# Altium schematic symbol library LibZynqEvalBoard.SchLib: 81 symbols (part 1 of 2)
Pins are listed as number, name and electrical type; pins without a type are passive.

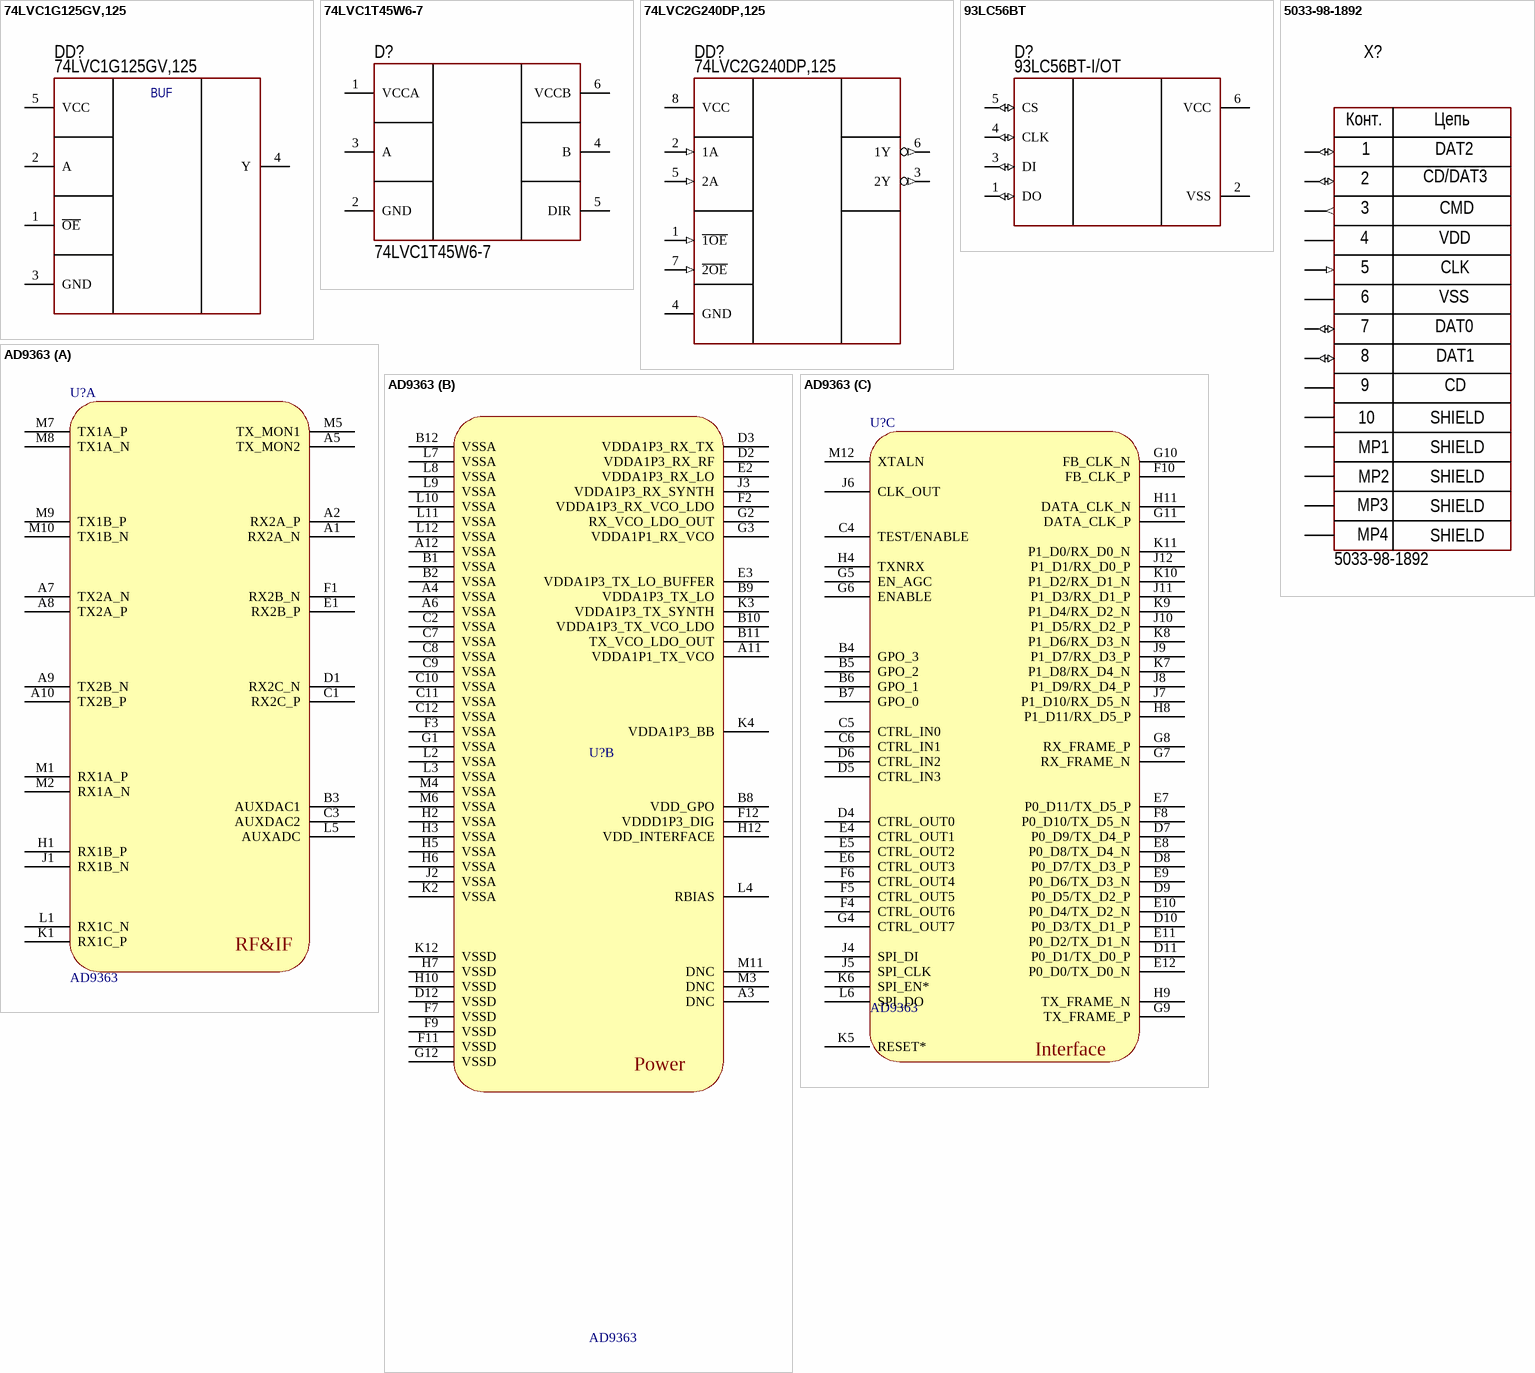
[diagram p0: symbols 74LVC1G125GV,125 to AD9363]

## 74LVC1G125GV,125
designator DD?  PartNumber: 74LVC1G125GV,125
SOT-23-5 Buffer/Driver/Transceiver ROHS; Manufacturer: Nexperia; VoltageInput: 1.65V to 5.5V; HelpURL: https://datasheet.lcsc.com/lcsc/2304140030_Nexperia-74LVC1G125GV-125_C12518.pdf; Package: 5-TSOP; ComponentType: Voltage-Level Shifter; ValueManufacturerPartNumber: =ComponentType+', '+VoltageInput+', '+MaxDropout+', '+VoltageOutput+', '+CurrentOutput+', '+Temperature+', '+Package; Temperature: -40...+85°C
footprint IC: 5-TSOP
pins: 1 ~{OE}, 2 A, 3 GND, 4 Y, 5 VCC
text: BUF

## 74LVC1T45W6-7
designator D?  PartNumber: 74LVC1T45W6-7
1.65V~5.5V 1 1 1.65V~5.5V SOT-26 Translators / Level Shifters ROHS; Manufacturer: Diodes Incorporated; ValueManufacturerPartNumber: ICtrigger D-type, 0.8...5.5V, -40...+85°C, SOT-26; Supply: 0.8...5.5V; HelpURL: https://www.lcsc.com/product-detail/Translators-Level-Shifters_Diodes-Incorporated-74LVC1T45W6-7_C168856.html; Package: SOT-26; ComponentType: ICtrigger D-type; Temperature: -40...+85°C
footprint SOT23-6 (pitch 0.95 mm)
pins: 1 VCCA, 2 GND, 3 A, 4 B, 5 DIR, 6 VCCB

## 74LVC2G240DP,125
designator DD?  PartNumber: 74LVC2G240DP,125
Полупроводниковые приборы\Интегральные схемы - ИС\Логические ИС\Буферы и линейные аппаратные драйверы Буферы и линейные аппаратные драйверы 3.3V 2 BUF/LDRVR; Manufacturer: Nexperia; VoltageInput: 1.65V-5.5V; HelpURL: https://datasheet.lcsc.com/lcsc/2204271615_Nexperia-74LVC2G240DP-125_C730238.pdf; Package: TSSOP-8-3.0mm; ComponentType: Voltage-Level Shifter; ValueManufacturerPartNumber: =ComponentType+', '+VoltageInput+', '+MaxDropout+', '+VoltageOutput+', '+CurrentOutput+', '+Temperature+', '+Package; Temperature: -40...+125°C
footprint IC:TSSOP-8-3.0mm
pins: 1 ~{1OE} (in), 2 1A (in), 3 2Y (out), 4 GND, 5 2A (in), 6 1Y (out), 7 ~{2OE} (in), 8 VCC

## 93LC56BT
designator D?  PartNumber: 93LC56BT-I/OT
EEPROM; Manufacturer: Microchip Technology; ValueManufacturerPartNumber: IC memory, EEPROM, 2KB (256x8), 2 MHz, SPI, 2.5...5.5V, -40...+85°C, SOT-23-6; Supply: 2.5...5.5V; Speed: 2 MHz; InterfaceData: SPI; MemorySize: 2KB (256x8); HelpURL: https://www.digikey.com/product-detail/en/microchip-technology/93LC56BT-I-OT/93LC56BT-I-OTCT-ND/857632; Package: SOT-23-6; ComponentType: IC memory; Temperature: -40...+85°C; MemoryType: EEPROM
footprint SOT23-6 (pitch 0.95 mm)
pins: 1 DO (io), 2 VSS (power), 3 DI (io), 4 CLK (io), 5 CS (io), 6 VCC (power)

## 5033-98-1892
designator X?  CommentText: 5033-98-1892
Manufacturer: MOLEX; ValueManufacturerPartNumber: MicroSD; HelpURL: https://static.chipdip.ru/lib/910/DOC012910372.pdf; TypeConnector: MicroSD; PartNumber: 5033-98-1892
footprint CON: 5033981892
pins: 1 DAT2 (io), 2 CD/DAT3 (io), 3 CMD (out), 4 VDD (power), 5 CLK (in), 6 VSS (power), 7 DAT0 (io), 8 DAT1 (io), 9 CD (power), 10 SHIELD (power), MP1 SHIELD (power), MP2 SHIELD (power), MP3 SHIELD (power), MP4 SHIELD (power)
text: Конт.; Цепь

## AD9363
designator U?
footprint AD936X
part A pins: A1 RX2A_N, A2 RX2A_P, A5 TX_MON2, A7 TX2A_N, A8 TX2A_P, A9 TX2B_N, A10 TX2B_P, B3 AUXDAC1, C1 RX2C_P, C3 AUXDAC2, D1 RX2C_N, E1 RX2B_P, F1 RX2B_N, H1 RX1B_P, J1 RX1B_N, K1 RX1C_P, L1 RX1C_N, L5 AUXADC, M1 RX1A_P, M2 RX1A_N, M5 TX_MON1, M7 TX1A_P, M8 TX1A_N, M9 TX1B_P, M10 TX1B_N
part B pins: A3 DNC, A4 VSSA, A6 VSSA, A11 VDDA1P1_TX_VCO, A12 VSSA, B1 VSSA, B2 VSSA, B8 VDD_GPO, B9 VDDA1P3_TX_LO, B10 VDDA1P3_TX_VCO_LDO, B11 TX_VCO_LDO_OUT, B12 VSSA, C2 VSSA, C7 VSSA, C8 VSSA, C9 VSSA, C10 VSSA, C11 VSSA, C12 VSSA, D2 VDDA1P3_RX_RF, D3 VDDA1P3_RX_TX, D12 VSSD, E2 VDDA1P3_RX_LO, E3 VDDA1P3_TX_LO_BUFFER, F2 VDDA1P3_RX_VCO_LDO, F3 VSSA, F7 VSSD, F9 VSSD, F11 VSSD, F12 VDDD1P3_DIG, G1 VSSA, G2 RX_VCO_LDO_OUT, G3 VDDA1P1_RX_VCO, G12 VSSD, H2 VSSA, H3 VSSA, H5 VSSA, H6 VSSA, H7 VSSD, H10 VSSD, H12 VDD_INTERFACE, J2 VSSA, J3 VDDA1P3_RX_SYNTH, K2 VSSA, K3 VDDA1P3_TX_SYNTH, K4 VDDA1P3_BB, K12 VSSD, L2 VSSA, L3 VSSA, L4 RBIAS, L7 VSSA, L8 VSSA, L9 VSSA, L10 VSSA, L11 VSSA, L12 VSSA, M3 DNC, M4 VSSA, M6 VSSA, M11 DNC
part C pins: B4 GPO_3, B5 GPO_2, B6 GPO_1, B7 GPO_0, C4 TEST/ENABLE, C5 CTRL_IN0, C6 CTRL_IN1, D4 CTRL_OUT0, D5 CTRL_IN3, D6 CTRL_IN2, D7 P0_D9/TX_D4_P, D8 P0_D7/TX_D3_P, D9 P0_D5/TX_D2_P, D10 P0_D3/TX_D1_P, D11 P0_D1/TX_D0_P, E4 CTRL_OUT1, E5 CTRL_OUT2, E6 CTRL_OUT3, E7 P0_D11/TX_D5_P, E8 P0_D8/TX_D4_N, E9 P0_D6/TX_D3_N, E10 P0_D4/TX_D2_N, E11 P0_D2/TX_D1_N, E12 P0_D0/TX_D0_N, F4 CTRL_OUT6, F5 CTRL_OUT5, F6 CTRL_OUT4, F8 P0_D10/TX_D5_N, F10 FB_CLK_P, G4 CTRL_OUT7, G5 EN_AGC, G6 ENABLE, G7 RX_FRAME_N, G8 RX_FRAME_P, G9 TX_FRAME_P, G10 FB_CLK_N, G11 DATA_CLK_P, H4 TXNRX, H8 P1_D11/RX_D5_P, H9 TX_FRAME_N, H11 DATA_CLK_N, J4 SPI_DI, J5 SPI_CLK, J6 CLK_OUT, J7 P1_D10/RX_D5_N, J8 P1_D9/RX_D4_P, J9 P1_D7/RX_D3_P, J10 P1_D5/RX_D2_P, J11 P1_D3/RX_D1_P, J12 P1_D1/RX_D0_P, K5 RESET*, K6 SPI_EN*, K7 P1_D8/RX_D4_N, K8 P1_D6/RX_D3_N, K9 P1_D4/RX_D2_N, K10 P1_D2/RX_D1_N, K11 P1_D0/RX_D0_N, L6 SPI_DO, M12 XTALN
part A text: RF&IF
part B text: Power
part C text: Interface

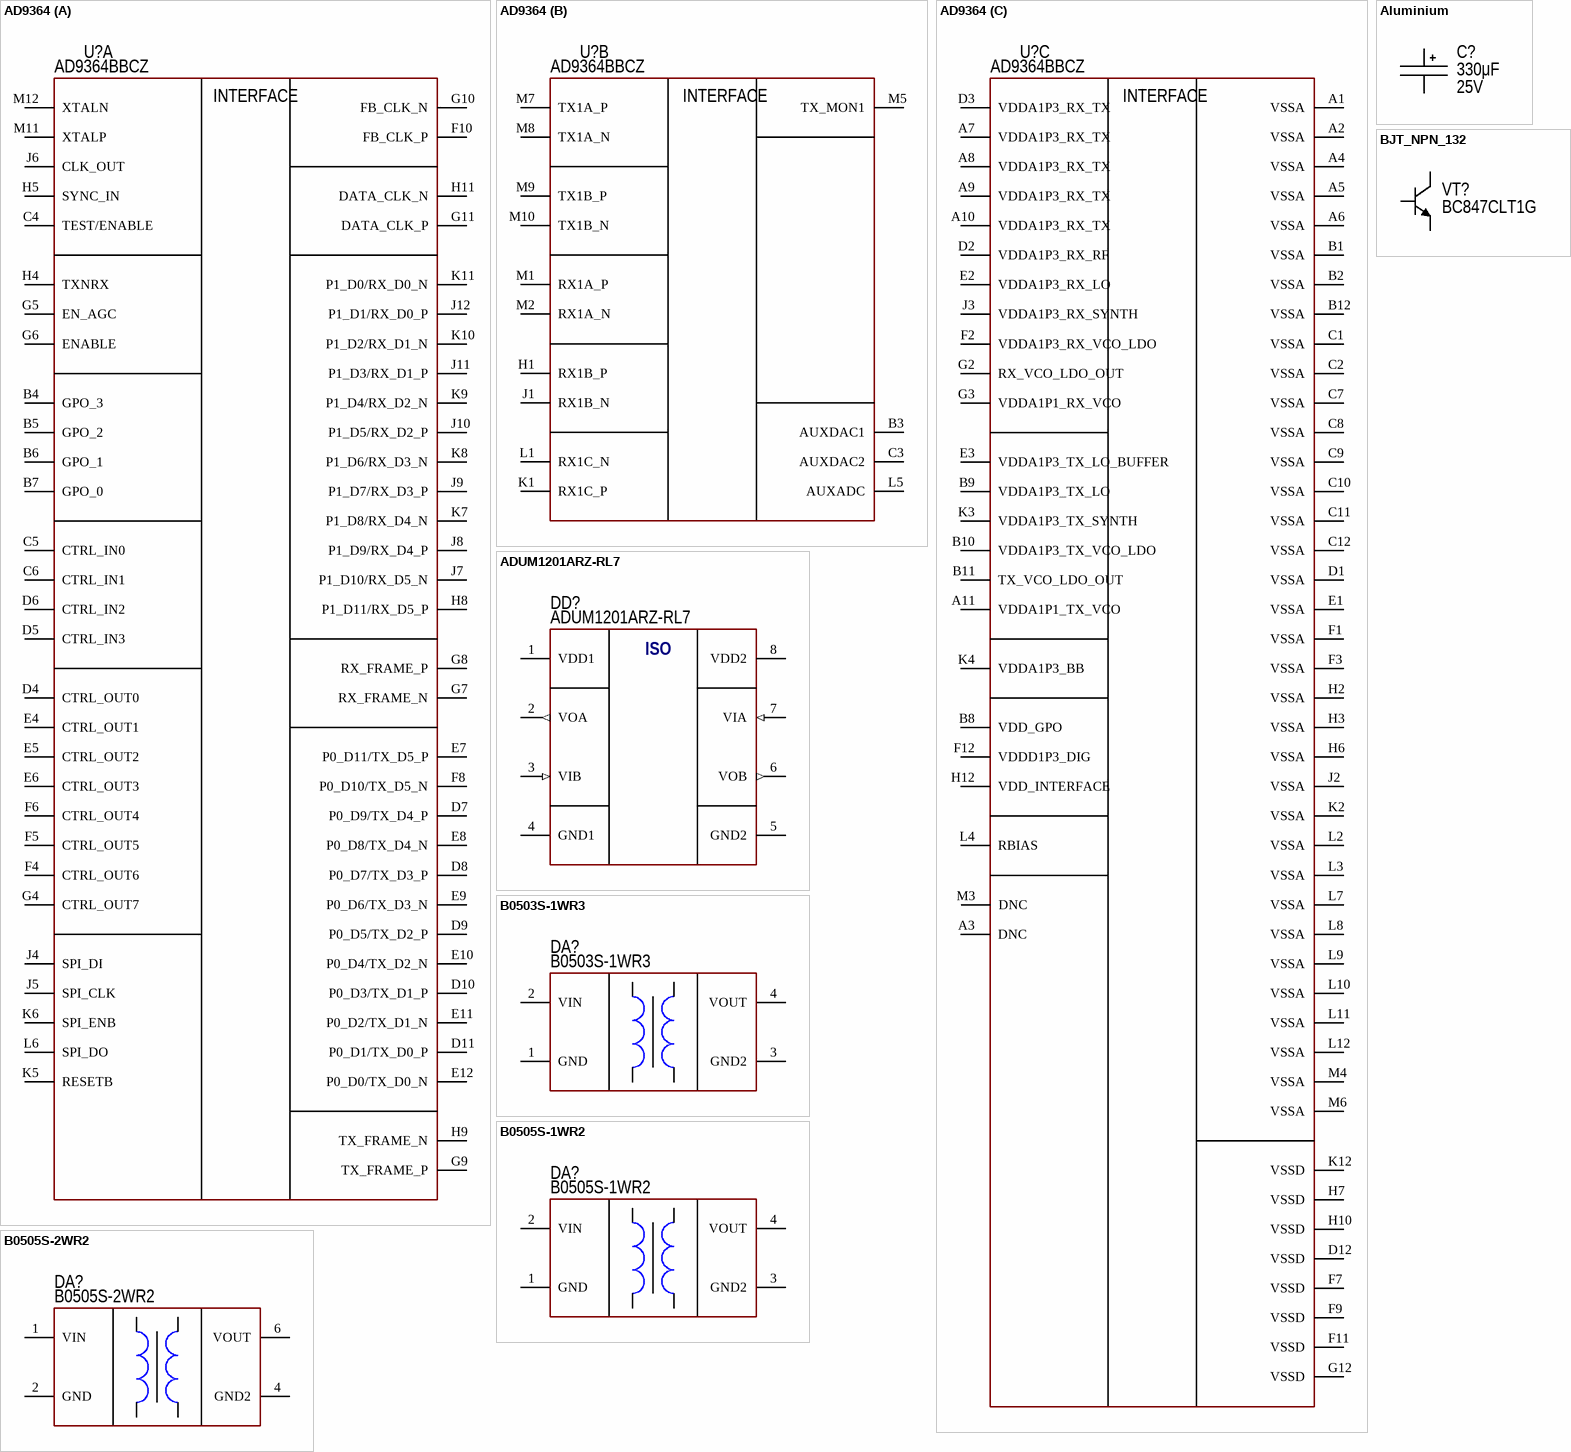
[diagram p1: symbols AD9364 to BJT_NPN_132]

## AD9364
designator U?  PartNumber: AD9364BBCZ
70MHz~6GHz Cellular SPI BGA-144 RF Transceiver ICs ROHS; Manufacturer: Analog Devices; VoltageInput: 1.2V to 2.5V; HelpURL: https://www.lcsc.com/product-detail/RF-Transceiver-ICs_Analog-Devices-AD9364BBCZ_C444946.html; Package: BGA-144; ComponentType: RF Transceiver; ValueManufacturerPartNumber: =ComponentType+', '+VoltageInput+', '+MaxDropout+', '+VoltageOutput+', '+CurrentOutput+', '+Temperature+', '+Package; Temperature: -40...+105°C
footprint IC: BGA-144 (AD936X)
part A pins: B4 GPO_3, B5 GPO_2, B6 GPO_1, B7 GPO_0, C4 TEST/ENABLE, C5 CTRL_IN0, C6 CTRL_IN1, D4 CTRL_OUT0, D5 CTRL_IN3, D6 CTRL_IN2, D7 P0_D9/TX_D4_P, D8 P0_D7/TX_D3_P, D9 P0_D5/TX_D2_P, D10 P0_D3/TX_D1_P, D11 P0_D1/TX_D0_P, E4 CTRL_OUT1, E5 CTRL_OUT2, E6 CTRL_OUT3, E7 P0_D11/TX_D5_P, E8 P0_D8/TX_D4_N, E9 P0_D6/TX_D3_N, E10 P0_D4/TX_D2_N, E11 P0_D2/TX_D1_N, E12 P0_D0/TX_D0_N, F4 CTRL_OUT6, F5 CTRL_OUT5, F6 CTRL_OUT4, F8 P0_D10/TX_D5_N, F10 FB_CLK_P, G4 CTRL_OUT7, G5 EN_AGC, G6 ENABLE, G7 RX_FRAME_N, G8 RX_FRAME_P, G9 TX_FRAME_P, G10 FB_CLK_N, G11 DATA_CLK_P, H4 TXNRX, H5 SYNC_IN, H8 P1_D11/RX_D5_P, H9 TX_FRAME_N, H11 DATA_CLK_N, J4 SPI_DI, J5 SPI_CLK, J6 CLK_OUT, J7 P1_D10/RX_D5_N, J8 P1_D9/RX_D4_P, J9 P1_D7/RX_D3_P, J10 P1_D5/RX_D2_P, J11 P1_D3/RX_D1_P, J12 P1_D1/RX_D0_P, K5 RESETB, K6 SPI_ENB, K7 P1_D8/RX_D4_N, K8 P1_D6/RX_D3_N, K9 P1_D4/RX_D2_N, K10 P1_D2/RX_D1_N, K11 P1_D0/RX_D0_N, L6 SPI_DO, M11 XTALP, M12 XTALN
part B pins: B3 AUXDAC1, C3 AUXDAC2, H1 RX1B_P, J1 RX1B_N, K1 RX1C_P, L1 RX1C_N, L5 AUXADC, M1 RX1A_P, M2 RX1A_N, M5 TX_MON1, M7 TX1A_P, M8 TX1A_N, M9 TX1B_P, M10 TX1B_N
part C pins: A1 VSSA, A2 VSSA, A3 DNC, A4 VSSA, A5 VSSA, A6 VSSA, A7 VDDA1P3_RX_TX, A8 VDDA1P3_RX_TX, A9 VDDA1P3_RX_TX, A10 VDDA1P3_RX_TX, A11 VDDA1P1_TX_VCO, B1 VSSA, B2 VSSA, B8 VDD_GPO, B9 VDDA1P3_TX_LO, B10 VDDA1P3_TX_VCO_LDO, B11 TX_VCO_LDO_OUT, B12 VSSA, C1 VSSA, C2 VSSA, C7 VSSA, C8 VSSA, C9 VSSA, C10 VSSA, C11 VSSA, C12 VSSA, D1 VSSA, D2 VDDA1P3_RX_RF, D3 VDDA1P3_RX_TX, D12 VSSD, E1 VSSA, E2 VDDA1P3_RX_LO, E3 VDDA1P3_TX_LO_BUFFER, F1 VSSA, F2 VDDA1P3_RX_VCO_LDO, F3 VSSA, F7 VSSD, F9 VSSD, F11 VSSD, F12 VDDD1P3_DIG, G2 RX_VCO_LDO_OUT, G3 VDDA1P1_RX_VCO, G12 VSSD, H2 VSSA, H3 VSSA, H6 VSSA, H7 VSSD, H10 VSSD, H12 VDD_INTERFACE, J2 VSSA, J3 VDDA1P3_RX_SYNTH, K2 VSSA, K3 VDDA1P3_TX_SYNTH, K4 VDDA1P3_BB, K12 VSSD, L2 VSSA, L3 VSSA, L4 RBIAS, L7 VSSA, L8 VSSA, L9 VSSA, L10 VSSA, L11 VSSA, L12 VSSA, M3 DNC, M4 VSSA, M6 VSSA
part A text: INTERFACE
part B text: INTERFACE
part C text: INTERFACE

## ADUM1201ARZ-RL7
designator DD?  PartNumber: ADUM1201ARZ-RL7
Двухканальный цифровой изолятор / SO-8; Manufacturer: Analog Devices; VoltageInput: 2.7V to 5.5V; HelpURL: https://www.chipdip.ru/product/adum1201ar; Package: soic-8; ComponentType: Voltage-Level Shifter; ValueManufacturerPartNumber: =ComponentType+', '+VoltageInput+', '+MaxDropout+', '+VoltageOutput+', '+CurrentOutput+', '+Temperature+', '+Package; Temperature: -40...+105°C
footprint IC: SOIC-8
pins: 1 VDD1, 2 VOA (out), 3 VIB (in), 4 GND1, 5 GND2, 6 VOB (out), 7 VIA (in), 8 VDD2
text: ISO

## Aluminium
designator C?  value 330μF  Voltage: 25V
Manufacturer: Wurth; PartNumber: 860080475013; ValueManufacturerPartNumber: Aluminium capacitor, 330μF, 25V, ±20%, 54mOhm, 14x10x5 mm, -55...+105°C; TypeCapacitor: Aluminium capacitor; Tolerance: ±20%; Impedance: 54mOhm; Package: 14x10x5 mm; HelpURL: https://www.digikey.com/product-detail/en/wurth-electronics-inc/860080475013/732-9029-1-ND/5728972; Temperature: -55...+105°C
footprint CAP: D5C2H11
footprint CAP: D6.3C2.5H11
footprint CAP: D6.3C2.5H16
footprint CAP: D8C3.5H12
footprint CAP: D10C5H12.5
footprint CAP: D10C5H20
footprint CAP: D10C5H16
footprint CAP: D13C5H20
footprint CAP: D16C7.5H25
footprint CAP: D16C7.5H31.5
footprint CAP: D18C7.5H25
footprint CAP: D18C7.5H40
footprint CAP: D22C10H25
footprint CAP: D25C10H50
footprint CAP: D30C10H37
footprint CAP: D30C10.5H47
footprint CAP: D35C10H40
footprint CAP: D35C10.5H50
footprint CAP: SMD D6.3A6.6H7.7
footprint CAP: D18C7.5H32
footprint CAP: D18C7.5H32 (H)
footprint CAP: SMD D4H5.4
pins: 1, 2

## B0503S-1WR3
designator DA?  PartNumber: B0503S-1WR3
DC/DC converter; Manufacturer: Mornsun; ValueManufacturerPartNumber: DC/DC converter, isolator, 3V3 300mA, -40...+105°C, SIP-4; OutputType: isolator; OutputVoltage: 3V3 300mA; HelpURL: https://www.chipdip.ru/product/b0503s-1wr3; Package: SIP-4; ComponentType: DC/DC converter; Temperature: -40...+105°C
footprint MOD: SIP-4 (B0503S-1WR3
pins: 1 GND (power), 2 VIN (power), 3 GND2 (power), 4 VOUT (power)

## B0505S-1WR2
designator DA?  PartNumber: B0505S-1WR2
DC/DC converter; Manufacturer: Mornsun; ValueManufacturerPartNumber: DC/DC converter, isolator, 5V0/300mA, -40...+105°C, SIP-4; OutputType: isolator; OutputVoltage: 5V0/300mA; HelpURL: https://static.chipdip.ru/lib/831/DOC031831774.pdf; Package: SIP-4; ComponentType: DC/DC converter; Temperature: -40...+105°C
footprint MOD: SIP-4 (B0503S-1WR3
pins: 1 GND (power), 2 VIN (power), 3 GND2 (power), 4 VOUT (power)

## B0505S-2WR2
designator DA?  PartNumber: B0505S-2WR2
DC/DC converter; Manufacturer: Mornsun; ValueManufacturerPartNumber: DC/DC converter, isolator, 5V0/400mA, -40...+105°C, SIP7-6; OutputType: isolator; OutputVoltage: 5V0/400mA; HelpURL: https://static.chipdip.ru/lib/137/DOC004137420.pdf; Package: SIP7-6; ComponentType: DC/DC converter; Temperature: -40...+105°C
footprint MOD: SIP-7 (B0505S-2WR2)
pins: 1 VIN (power), 2 GND (power), 4 GND2 (power), 6 VOUT (power)

## BJT_NPN_132
designator VT?  PartNumber: BC847CLT1G
Manufacturer: ON Semiconductor; ValueManufacturerPartNumber: NPN transistor, 45V, 100mA, 100MHz, 300mW, 0.6V, 420, SOT-23, -55...+125°C; TypeTransistor: NPN transistor; VoltageCE: 45V; CurrentCE: 100mA; VoltageSaturation: 0.6V; Frequency: 100MHz; CurrentGain: 420; MaxPower: 300mW; Package: SOT-23; HelpURL: https://www.digikey.com/product-detail/en/on-semiconductor/BC847CLT1G/BC847CLT1GOSCT-ND/917836; Temperature: -55...+125°C
footprint SOT23
pins: 1 B, 2 E, 3 C

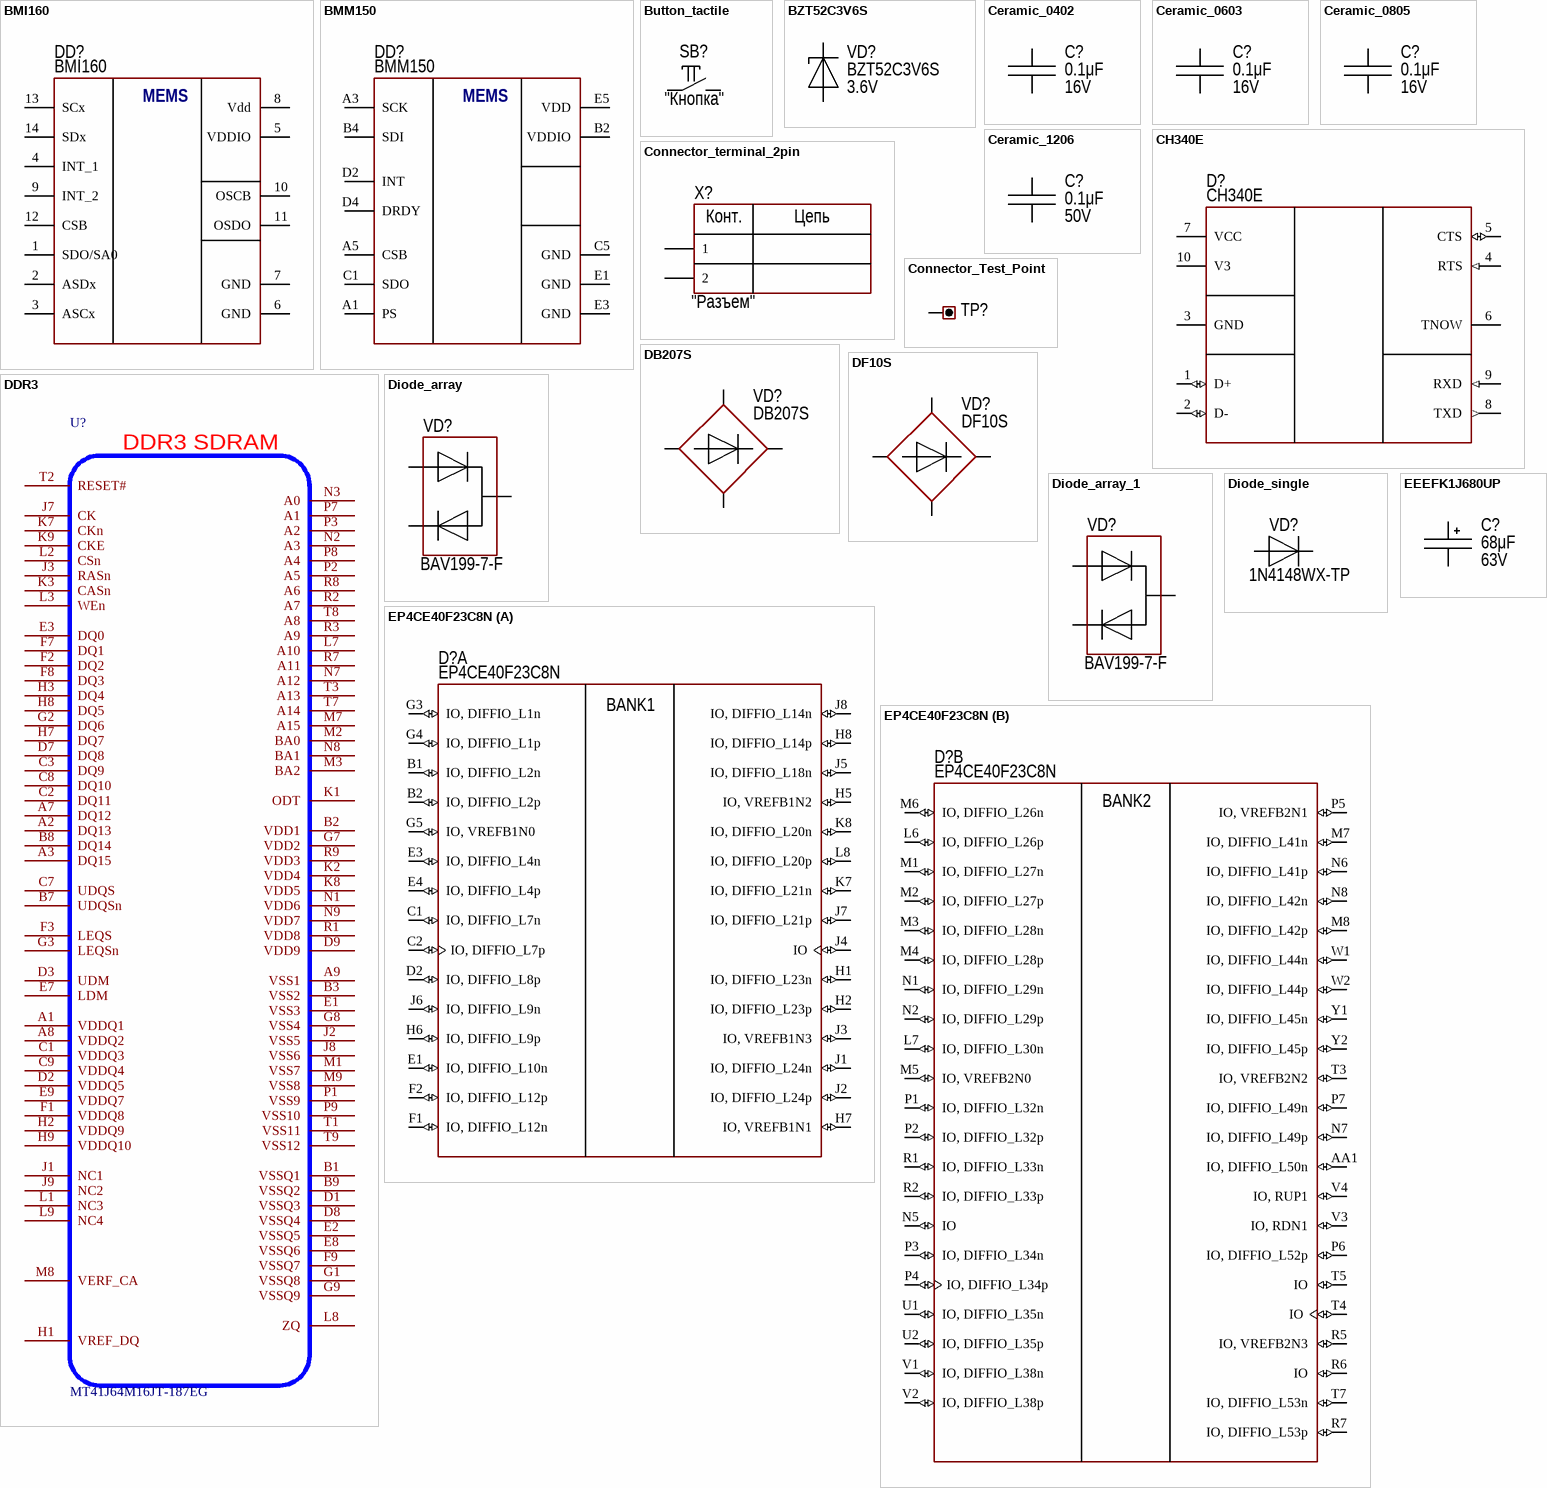
[diagram p2: symbols BMI160 to EP4CE40F23C8N]

## BMI160
designator DD?  PartNumber: BMI160
MEMS Акселерометр и гироскоп; Manufacturer: BOSH; VoltageInput: 1.71V to 3.6V; HelpURL: https://www.bosch-sensortec.com/products/motion-sensors/imus/bmi160/; Package: LGA-14; ComponentType: MEMS; ValueManufacturerPartNumber: =ComponentType+', '+VoltageInput+', '+MaxDropout+', '+VoltageOutput+', '+CurrentOutput+', '+Temperature+', '+Package; Temperature: -40...+85°C
footprint IC: LGA-14L
pins: 1 SDO/SA0, 2 ASDx, 3 ASCx, 4 INT_1, 5 VDDIO, 6 GND, 7 GND, 8 Vdd, 9 INT_2, 10 OSCB, 11 OSDO, 12 CSB, 13 SCx, 14 SDx

## BMM150
designator DD?  PartNumber: BMM150
MEMS Магнетометр; Manufacturer: BOSH; VoltageInput: 1.62V to 3.6V; HelpURL: https://www.bosch-sensortec.com/products/motion-sensors/magnetometers-bmm150/; Package: WLCSP-12; ComponentType: MEMS; ValueManufacturerPartNumber: =ComponentType+', '+VoltageInput+', '+MaxDropout+', '+VoltageOutput+', '+CurrentOutput+', '+Temperature+', '+Package; Temperature: -40...+85°C
footprint IC:WLCSP-12 (BMM150)
pins: A1 PS, A3 SCK, A5 CSB, B2 VDDIO, B4 SDI, C1 SDO, C5 GND, D2 INT, D4 DRDY, E1 GND, E3 GND, E5 VDD

## Button_tactile
designator SB?  CommentText: "Кнопка"
Manufacturer: TE Connectivity; ValueManufacturerPartNumber: Tactile button, 6x6mm; PartNumber: FSM2JSMAATR; TypeButton: Tactile button; HelpURL: https://www.digikey.com/product-detail/en/te-connectivity-alcoswitch-switches/FSM2JSMAATR/450-1792-1-ND/3503931; Package: 6x6mm
footprint BUT: 6x3.5 SMD
pins: 1, 2

## BZT52C3V6S
designator VD?  Voltage: 3.6V  PartNumber: BZT52C3V6S
SOD-323 Zener Diodes ROHS; Manufacturer: Diodes Incorporated; ValueManufacturerPartNumber: Zener diode, 3.6V, 5mA, 0.9V, 17Ohm, SOD-323, -55...+150°C; Current: 5mA; VoltageDrop: 0.9V; RecoveryTime: 17Ohm; Package: SOD-323; HelpURL: https://www.lcsc.com/product-detail/Zener-Diodes_YFW-BZT52C3V6S_C5270767.html; Temperature: -55...+150°C; TypeDiode: Zener diode
footprint DIODE: SOD323
pins: 1 A, 2 C

## Ceramic_0402
designator C?  value 0.1μF  Voltage: 16V
Manufacturer: Yageo; PartNumber: CC0402KRX7R7BB104; ValueManufacturerPartNumber: Ceramic capacitor, 0.1μF, X7R, ±10%, 16V, 0402, -55...+125°C; TypeCapacitor: Ceramic capacitor; Tolerance: ±10%; TypeDielectric: X7R; Package: 0402; HelpURL: https://www.digikey.com/product-detail/en/yageo/CC0402KRX7R7BB104/311-1338-1-ND/2103122; Temperature: -55...+125°C
footprint CAP: 0402
pins: 1, 2

## Ceramic_0603
designator C?  value 0.1μF  Voltage: 16V
Manufacturer: Yageo; PartNumber: CC0603KRX7R7BB104; ValueManufacturerPartNumber: Ceramic capacitor, 0.1μF, X7R, ±10%, 16V, 0603, -55...+125°C; TypeCapacitor: Ceramic capacitor; Tolerance: ±10%; TypeDielectric: X7R; Package: 0603; HelpURL: https://www.digikey.com/product-detail/en/yageo/CC0603KRX7R7BB104/311-1088-1-ND/302998; Temperature: -55...+125°C
footprint CAP: 0603
pins: 1, 2

## Ceramic_0805
designator C?  value 0.1μF  Voltage: 16V
Manufacturer: Yageo; PartNumber: CC0805KRX7R7BB104; ValueManufacturerPartNumber: Ceramic capacitor, 0.1μF, X7R, ±10%, 16V, 0805, -55...+125°C; TypeCapacitor: Ceramic capacitor; Tolerance: ±10%; TypeDielectric: X7R; Package: 0805; HelpURL: https://www.digikey.com/product-detail/en/yageo/CC0805KRX7R7BB104/311-1142-1-ND/303052; Temperature: -55...+125°C
footprint CAP: 0805
pins: 1, 2

## Ceramic_1206
designator C?  value 0.1μF  Voltage: 50V
Manufacturer: Yageo; PartNumber: CC1206KRX7R9BB104; ValueManufacturerPartNumber: Ceramic capacitor, 0.1μF, X7R, ±10%, 50V, 1206, -55...+125°C; TypeCapacitor: Ceramic capacitor; Tolerance: ±10%; TypeDielectric: X7R; Package: 1206; HelpURL: https://www.digikey.com/product-detail/en/yageo/CC1206KRX7R9BB104/311-1179-1-ND/303089; Temperature: -55...+125°C
footprint CAP: 1206
pins: 1, 2

## CH340E
designator D?  PartNumber: CH340E
USB-to-UART; Manufacturer: WCH(Jiangsu Qin Heng); ValueManufacturerPartNumber: IC usb-to-uart bridge, USB2.0, 3...3.6V, -40...+85°C, MSOP-10; Supply: 3...3.6V; HelpURL: https://www.lcsc.com/product-detail/USB-ICs_WCH-Jiangsu-Qin-Heng-CH340E_C99652.html; Package: MSOP-10; ComponentType: IC usb-to-uart bridge; Temperature: -40...+85°C; Standard: USB2.0
footprint 10-MSOP (3x3 mm, pitch 0.5 mm)
pins: 1 D+ (io), 2 D- (io), 3 GND, 4 RTS (in), 5 CTS (io), 6 TNOW, 7 VCC (power), 8 TXD (out), 9 RXD (in), 10 V3 (power)

## Connector_terminal_2pin
designator X?  CommentText: "Разъем"
Manufacturer: Degson; ValueManufacturerPartNumber: Terminal connector, 2pin, 3.5mm, 300VAC, 10A; PartNumber: DG350-3.5-02P-14; TypeConnector: Terminal connector; VoltageMax: 300VAC; Pitch: 3.5mm; CurrentMax: 10A; Multichannel: 2pin; HelpURL: https://www.chipdip.ru/product/dg350-3.5-02p-12
footprint CON: 691322310002 (15EDGRC-3.81-02)
footprint CON: 15EDGVC-3.5-02 (or 691321100002) (Vertical PCB Header, pitch 3.5mm, 02p)
pins: 1, 2
text: Конт.; Цепь

## Connector_Test_Point
designator TP?
Manufacturer: Keystone; ValueManufacturerPartNumber: Test point, Keystone, 5001; PartNumber: 5001; TypeConnector: Test point; HelpURL: https://www.digikey.com/product-detail/en/keystone-electronics/5001/36-5001-ND/255327; Value: *
footprint CON: 5000 (Keystone)
footprint CON: 5001 (Keystone)
footprint CON: 5002 (Keystone)
footprint CON: 5004 (Keystone)
footprint CON: 5116 (Keystone)
footprint CON: TEST POINT 1.5mm
footprint Value (Footprint not found)
pins: 1

## DB207S
designator VD?  PartNumber: DB207S
Manufacturer: Hottech; ValueManufacturerPartNumber: Single phase rectifier, 1000V, 2A, 1.1V, 4-SMD, -55...+150°C; TypeDiode: Single phase rectifier; Voltage: 1000V; Current: 2A; VoltageDrop: 1.1V; Package: 4-SMD; HelpURL: https://www.digikey.com/product-detail/en/comchip-technology/DF206ST-G/641-1425-1-ND/2208797; Temperature: -55...+150°C
footprint DIODE: DF206S-G
pins: 1, 2, 3, 4

## DDR3
designator U?, comment MT41J64M16JT-187EG
footprint FBGA96
pins: A1 VDDQ1, A2 DQ13, A3 DQ15, A7 DQ12, A8 VDDQ2, A9 VSS1, B1 VSSQ1, B2 VDD1, B3 VSS2, B7 UDQSn, B8 DQ14, B9 VSSQ2, C1 VDDQ3, C2 DQ11, C3 DQ9, C7 UDQS, C8 DQ10, C9 VDDQ4, D1 VSSQ3, D2 VDDQ5, D3 UDM, D7 DQ8, D8 VSSQ4, D9 VDD9, E1 VSS3, E2 VSSQ5, E3 DQ0, E7 LDM, E8 VSSQ6, E9 VDDQ7, F1 VDDQ8, F2 DQ2, F3 LEQS, F7 DQ1, F8 DQ3, F9 VSSQ7, G1 VSSQ8, G2 DQ6, G3 LEQSn, G7 VDD2, G8 VSS4, G9 VSSQ9, H1 VREF_DQ, H2 VDDQ9, H3 DQ4, H7 DQ7, H8 DQ5, H9 VDDQ10, J1 NC1, J2 VSS5, J3 RASn, J7 CK, J8 VSS6, J9 NC2, K1 ODT, K2 VDD4, K3 CASn, K7 CKn, K8 VDD5, K9 CKE, L1 NC3, L2 CSn, L3 WEn, L7 A10, L8 ZQ, L9 NC4, M1 VSS7, M2 BA0, M3 BA2, M7 A15, M8 VERF_CA, M9 VSS8, N1 VDD6, N2 A3, N3 A0, N7 A12, N8 BA1, N9 VDD7, P1 VSS9, P2 A5, P3 A2, P7 A1, P8 A4, P9 VSS10, R1 VDD8, R2 A7, R3 A9, R7 A11, R8 A6, R9 VDD3, T1 VSS11, T2 RESET#, T3 A13, T7 A14, T8 A8, T9 VSS12
text: DDR3 SDRAM

## DF10S
designator VD?  PartNumber: DF10S
DF10S, Диодный мост 1А 1000В [DFS]; Manufacturer: Comchip Technology; ValueManufacturerPartNumber: Single phase rectifier, 1000V, 1A, 1.1V, 4-SMD, -55...+150°C; TypeDiode: Single phase rectifier; Voltage: 1000V; Current: 1A; VoltageDrop: 1.1V; Package: 4-SMD; HelpURL: https://static.chipdip.ru/lib/770/DOC013770777.pdf; Temperature: -55...+150°C
footprint DIODE: DF206S-G
pins: 1, 2, 3, 4

## Diode_array
designator VD?  PartNumber: BAV199-7-F
Manufacturer: Diodes Incorporated; ValueManufacturerPartNumber: Diode array, 85V, 140mA, 1.1V, 3us, SOT-23, -65...+150°C; TypeDiode: Diode array; Voltage: 85V; Current: 140mA; VoltageDrop: 1.1V; RecoveryTime: 3us; Package: SOT-23; HelpURL: https://www.digikey.com/product-detail/en/diodes-incorporated/BAV199-7-F/BAV199-FDICT-ND/1033647; Temperature: -65...+150°C
footprint SOT23
pins: 1, 2, 3

## Diode_array_1
designator VD?  PartNumber: BAV199-7-F
Manufacturer: Diodes Incorporated; ValueManufacturerPartNumber: Diode array, 85V, 140mA, 1.1V, 3us, SOT-23, -65...+150°C; TypeDiode: Diode array; Voltage: 85V; Current: 140mA; VoltageDrop: 1.1V; RecoveryTime: 3us; Package: SOT-23; HelpURL: https://www.digikey.com/product-detail/en/diodes-incorporated/BAV199-7-F/BAV199-FDICT-ND/1033647; Temperature: -65...+150°C
footprint SOT23
pins: 1, 2, 3

## Diode_single
designator VD?  PartNumber: 1N4148WX-TP
Manufacturer: Micro Commercial; ValueManufacturerPartNumber: Single diode, 75V, 150mA, 1V, 4ns, SOD-323, -55...+150°C; TypeDiode: Single diode; Voltage: 75V; Current: 150mA; VoltageDrop: 1V; RecoveryTime: 4ns; Package: SOD-323; HelpURL: https://www.digikey.com/product-detail/en/micro-commercial-co/1N4148WX-TP/1N4148WXTPMSCT-ND/717312; Temperature: -55...+150°C
footprint DIODE: SMA
pins: 1, 2

## EEEFK1J680UP
designator C?  value 68μF  Voltage: 63V
Manufacturer: Panasonic; PartNumber: EEEFK1J680UP; ValueManufacturerPartNumber: Aluminum Electrolytic, 68μF, 63V, ±20%, 650mOhm, Tape и Reel(TR), -55...+125°C; Impedance: 650mOhm; Tolerance: ±20%; TypeCapacitor: Aluminum Electrolytic; Package: Tape и Reel(TR); HelpURL: https://www.chipdip.ru/product0/8001786561; Temperature: -55...+125°C; TypeDielectric: *
footprint CAP_EEEFK1J680UP
pins: 1, 2

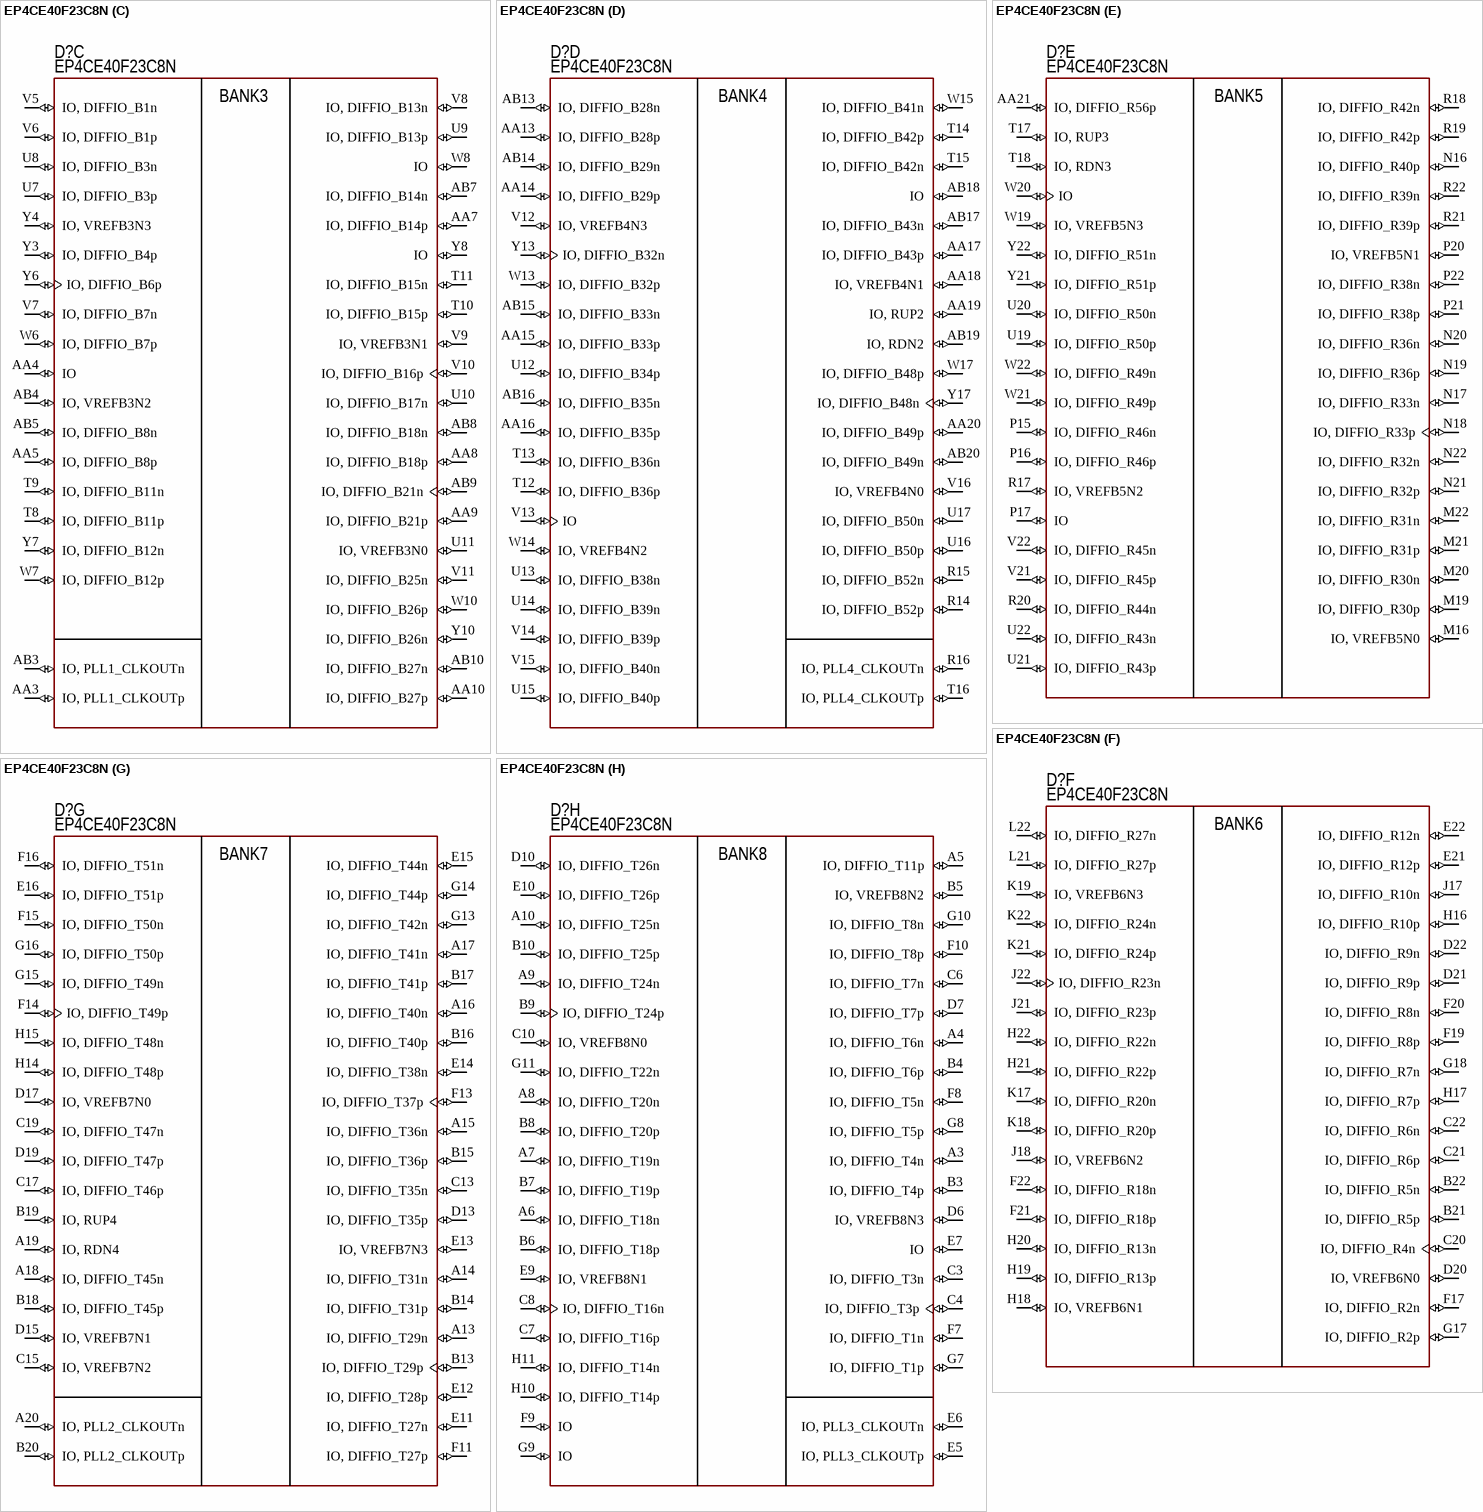
[diagram p3: symbol EP4CE40F23C8N]

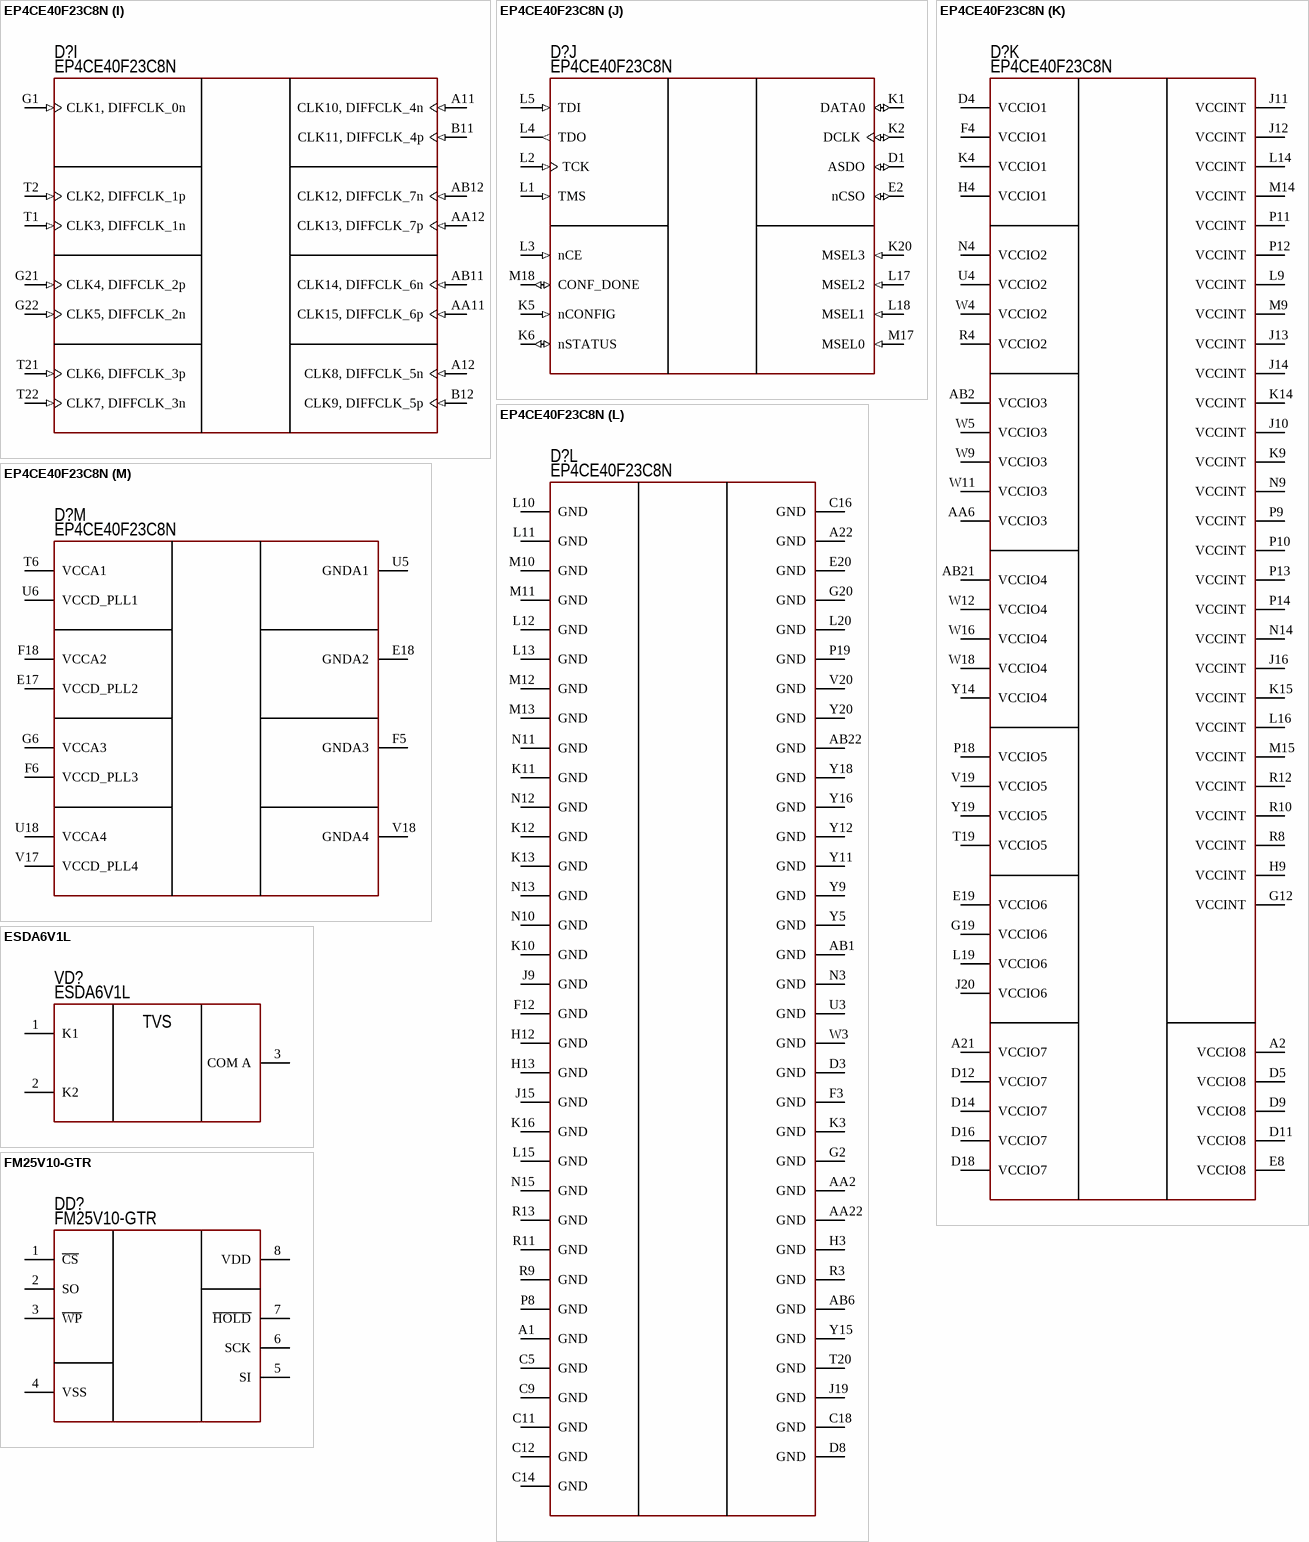
[diagram p4: symbols EP4CE40F23C8N to FM25V10-GTR]

## EP4CE40F23C8N
designator D?  PartNumber: EP4CE40F23C8N
FPGA Cyclone IV; Manufacturer: Intel; ValueManufacturerPartNumber: IC FPGA, Cyclone IV, 400MHz, 39600LE, 1161216 bits, 1.15...1.25V, 0...+85°C, 484-FBGA; Supply: 1.15...1.25V; Speed: 400MHz; LogicElements: 39600LE; MemoryRAM: 1161216 bits; HelpURL: https://www.digikey.com/products/en?keywords=EP4CE40F23C8N; Package: 484-FBGA; ComponentType: IC FPGA; Temperature: 0...+85°C; Series: Cyclone IV
footprint 484-FBGA (pitch 1 mm)
part A pins: B1 IO, DIFFIO_L2n (io), B2 IO, DIFFIO_L2p (io), C1 IO, DIFFIO_L7n (io), C2 IO, DIFFIO_L7p (io), D2 IO, DIFFIO_L8p (io), E1 IO, DIFFIO_L10n (io), E3 IO, DIFFIO_L4n (io), E4 IO, DIFFIO_L4p (io), F1 IO, DIFFIO_L12n (io), F2 IO, DIFFIO_L12p (io), G3 IO, DIFFIO_L1n (io), G4 IO, DIFFIO_L1p (io), G5 IO, VREFB1N0 (io), H1 IO, DIFFIO_L23n (io), H2 IO, DIFFIO_L23p (io), H5 IO, VREFB1N2 (io), H6 IO, DIFFIO_L9p (io), H7 IO, VREFB1N1 (io), H8 IO, DIFFIO_L14p (io), J1 IO, DIFFIO_L24n (io), J2 IO, DIFFIO_L24p (io), J3 IO, VREFB1N3 (io), J4 IO (io), J5 IO, DIFFIO_L18n (io), J6 IO, DIFFIO_L9n (io), J7 IO, DIFFIO_L21p (io), J8 IO, DIFFIO_L14n (io), K7 IO, DIFFIO_L21n (io), K8 IO, DIFFIO_L20n (io), L8 IO, DIFFIO_L20p (io)
part B pins: AA1 IO, DIFFIO_L50n (io), L6 IO, DIFFIO_L26p (io), L7 IO, DIFFIO_L30n (io), M1 IO, DIFFIO_L27n (io), M2 IO, DIFFIO_L27p (io), M3 IO, DIFFIO_L28n (io), M4 IO, DIFFIO_L28p (io), M5 IO, VREFB2N0 (io), M6 IO, DIFFIO_L26n (io), M7 IO, DIFFIO_L41n (io), M8 IO, DIFFIO_L42p (io), N1 IO, DIFFIO_L29n (io), N2 IO, DIFFIO_L29p (io), N5 IO (io), N6 IO, DIFFIO_L41p (io), N7 IO, DIFFIO_L49p (io), N8 IO, DIFFIO_L42n (io), P1 IO, DIFFIO_L32n (io), P2 IO, DIFFIO_L32p (io), P3 IO, DIFFIO_L34n (io), P4 IO, DIFFIO_L34p (io), P5 IO, VREFB2N1 (io), P6 IO, DIFFIO_L52p (io), P7 IO, DIFFIO_L49n (io), R1 IO, DIFFIO_L33n (io), R2 IO, DIFFIO_L33p (io), R5 IO, VREFB2N3 (io), R6 IO (io), R7 IO, DIFFIO_L53p (io), T3 IO, VREFB2N2 (io), T4 IO (io), T5 IO (io), T7 IO, DIFFIO_L53n (io), U1 IO, DIFFIO_L35n (io), U2 IO, DIFFIO_L35p (io), V1 IO, DIFFIO_L38n (io), V2 IO, DIFFIO_L38p (io), V3 IO, RDN1 (io), V4 IO, RUP1 (io), W1 IO, DIFFIO_L44n (io), W2 IO, DIFFIO_L44p (io), Y1 IO, DIFFIO_L45n (io), Y2 IO, DIFFIO_L45p (io)
part C pins: AA3 IO, PLL1_CLKOUTp (io), AA4 IO (io), AA5 IO, DIFFIO_B8p (io), AA7 IO, DIFFIO_B14p (io), AA8 IO, DIFFIO_B18p (io), AA9 IO, DIFFIO_B21p (io), AA10 IO, DIFFIO_B27p (io), AB3 IO, PLL1_CLKOUTn (io), AB4 IO, VREFB3N2 (io), AB5 IO, DIFFIO_B8n (io), AB7 IO, DIFFIO_B14n (io), AB8 IO, DIFFIO_B18n (io), AB9 IO, DIFFIO_B21n (io), AB10 IO, DIFFIO_B27n (io), T8 IO, DIFFIO_B11p (io), T9 IO, DIFFIO_B11n (io), T10 IO, DIFFIO_B15p (io), T11 IO, DIFFIO_B15n (io), U7 IO, DIFFIO_B3p (io), U8 IO, DIFFIO_B3n (io), U9 IO, DIFFIO_B13p (io), U10 IO, DIFFIO_B17n (io), U11 IO, VREFB3N0 (io), V5 IO, DIFFIO_B1n (io), V6 IO, DIFFIO_B1p (io), V7 IO, DIFFIO_B7n (io), V8 IO, DIFFIO_B13n (io), V9 IO, VREFB3N1 (io), V10 IO, DIFFIO_B16p (io), V11 IO, DIFFIO_B25n (io), W6 IO, DIFFIO_B7p (io), W7 IO, DIFFIO_B12p (io), W8 IO (io), W10 IO, DIFFIO_B26p (io), Y3 IO, DIFFIO_B4p (io), Y4 IO, VREFB3N3 (io), Y6 IO, DIFFIO_B6p (io), Y7 IO, DIFFIO_B12n (io), Y8 IO (io), Y10 IO, DIFFIO_B26n (io)
part D pins: AA13 IO, DIFFIO_B28p (io), AA14 IO, DIFFIO_B29p (io), AA15 IO, DIFFIO_B33p (io), AA16 IO, DIFFIO_B35p (io), AA17 IO, DIFFIO_B43p (io), AA18 IO, VREFB4N1 (io), AA19 IO, RUP2 (io), AA20 IO, DIFFIO_B49p (io), AB13 IO, DIFFIO_B28n (io), AB14 IO, DIFFIO_B29n (io), AB15 IO, DIFFIO_B33n (io), AB16 IO, DIFFIO_B35n (io), AB17 IO, DIFFIO_B43n (io), AB18 IO (io), AB19 IO, RDN2 (io), AB20 IO, DIFFIO_B49n (io), R14 IO, DIFFIO_B52p (io), R15 IO, DIFFIO_B52n (io), R16 IO, PLL4_CLKOUTn (io), T12 IO, DIFFIO_B36p (io), T13 IO, DIFFIO_B36n (io), T14 IO, DIFFIO_B42p (io), T15 IO, DIFFIO_B42n (io), T16 IO, PLL4_CLKOUTp (io), U12 IO, DIFFIO_B34p (io), U13 IO, DIFFIO_B38n (io), U14 IO, DIFFIO_B39n (io), U15 IO, DIFFIO_B40p (io), U16 IO, DIFFIO_B50p (io), U17 IO, DIFFIO_B50n (io), V12 IO, VREFB4N3 (io), V13 IO (io), V14 IO, DIFFIO_B39p (io), V15 IO, DIFFIO_B40n (io), V16 IO, VREFB4N0 (io), W13 IO, DIFFIO_B32p (io), W14 IO, VREFB4N2 (io), W15 IO, DIFFIO_B41n (io), W17 IO, DIFFIO_B48p (io), Y13 IO, DIFFIO_B32n (io), Y17 IO, DIFFIO_B48n (io)
part E pins: AA21 IO, DIFFIO_R56p (io), M16 IO, VREFB5N0 (io), M19 IO, DIFFIO_R30p (io), M20 IO, DIFFIO_R30n (io), M21 IO, DIFFIO_R31p (io), M22 IO, DIFFIO_R31n (io), N16 IO, DIFFIO_R40p (io), N17 IO, DIFFIO_R33n (io), N18 IO, DIFFIO_R33p (io), N19 IO, DIFFIO_R36p (io), N20 IO, DIFFIO_R36n (io), N21 IO, DIFFIO_R32p (io), N22 IO, DIFFIO_R32n (io), P15 IO, DIFFIO_R46n (io), P16 IO, DIFFIO_R46p (io), P17 IO (io), P20 IO, VREFB5N1 (io), P21 IO, DIFFIO_R38p (io), P22 IO, DIFFIO_R38n (io), R17 IO, VREFB5N2 (io), R18 IO, DIFFIO_R42n (io), R19 IO, DIFFIO_R42p (io), R20 IO, DIFFIO_R44n (io), R21 IO, DIFFIO_R39p (io), R22 IO, DIFFIO_R39n (io), T17 IO, RUP3 (io), T18 IO, RDN3 (io), U19 IO, DIFFIO_R50p (io), U20 IO, DIFFIO_R50n (io), U21 IO, DIFFIO_R43p (io), U22 IO, DIFFIO_R43n (io), V21 IO, DIFFIO_R45p (io), V22 IO, DIFFIO_R45n (io), W19 IO, VREFB5N3 (io), W20 IO (io), W21 IO, DIFFIO_R49p (io), W22 IO, DIFFIO_R49n (io), Y21 IO, DIFFIO_R51p (io), Y22 IO, DIFFIO_R51n (io)
part F pins: B21 IO, DIFFIO_R5p (io), B22 IO, DIFFIO_R5n (io), C20 IO, DIFFIO_R4n (io), C21 IO, DIFFIO_R6p (io), C22 IO, DIFFIO_R6n (io), D20 IO, VREFB6N0 (io), D21 IO, DIFFIO_R9p (io), D22 IO, DIFFIO_R9n (io), E21 IO, DIFFIO_R12p (io), E22 IO, DIFFIO_R12n (io), F17 IO, DIFFIO_R2n (io), F19 IO, DIFFIO_R8p (io), F20 IO, DIFFIO_R8n (io), F21 IO, DIFFIO_R18p (io), F22 IO, DIFFIO_R18n (io), G17 IO, DIFFIO_R2p (io), G18 IO, DIFFIO_R7n (io), H16 IO, DIFFIO_R10p (io), H17 IO, DIFFIO_R7p (io), H18 IO, VREFB6N1 (io), H19 IO, DIFFIO_R13p (io), H20 IO, DIFFIO_R13n (io), H21 IO, DIFFIO_R22p (io), H22 IO, DIFFIO_R22n (io), J17 IO, DIFFIO_R10n (io), J18 IO, VREFB6N2 (io), J21 IO, DIFFIO_R23p (io), J22 IO, DIFFIO_R23n (io), K17 IO, DIFFIO_R20n (io), K18 IO, DIFFIO_R20p (io), K19 IO, VREFB6N3 (io), K21 IO, DIFFIO_R24p (io), K22 IO, DIFFIO_R24n (io), L21 IO, DIFFIO_R27p (io), L22 IO, DIFFIO_R27n (io)
part G pins: A13 IO, DIFFIO_T29n (io), A14 IO, DIFFIO_T31n (io), A15 IO, DIFFIO_T36n (io), A16 IO, DIFFIO_T40n (io), A17 IO, DIFFIO_T41n (io), A18 IO, DIFFIO_T45n (io), A19 IO, RDN4 (io), A20 IO, PLL2_CLKOUTn (io), B13 IO, DIFFIO_T29p (io), B14 IO, DIFFIO_T31p (io), B15 IO, DIFFIO_T36p (io), B16 IO, DIFFIO_T40p (io), B17 IO, DIFFIO_T41p (io), B18 IO, DIFFIO_T45p (io), B19 IO, RUP4 (io), B20 IO, PLL2_CLKOUTp (io), C13 IO, DIFFIO_T35n (io), C15 IO, VREFB7N2 (io), C17 IO, DIFFIO_T46p (io), C19 IO, DIFFIO_T47n (io), D13 IO, DIFFIO_T35p (io), D15 IO, VREFB7N1 (io), D17 IO, VREFB7N0 (io), D19 IO, DIFFIO_T47p (io), E11 IO, DIFFIO_T27n (io), E12 IO, DIFFIO_T28p (io), E13 IO, VREFB7N3 (io), E14 IO, DIFFIO_T38n (io), E15 IO, DIFFIO_T44n (io), E16 IO, DIFFIO_T51p (io), F11 IO, DIFFIO_T27p (io), F13 IO, DIFFIO_T37p (io), F14 IO, DIFFIO_T49p (io), F15 IO, DIFFIO_T50n (io), F16 IO, DIFFIO_T51n (io), G13 IO, DIFFIO_T42n (io), G14 IO, DIFFIO_T44p (io), G15 IO, DIFFIO_T49n (io), G16 IO, DIFFIO_T50p (io), H14 IO, DIFFIO_T48p (io), H15 IO, DIFFIO_T48n (io)
part H pins: A3 IO, DIFFIO_T4n (io), A4 IO, DIFFIO_T6n (io), A5 IO, DIFFIO_T11p (io), A6 IO, DIFFIO_T18n (io), A7 IO, DIFFIO_T19n (io), A8 IO, DIFFIO_T20n (io), A9 IO, DIFFIO_T24n (io), A10 IO, DIFFIO_T25n (io), B3 IO, DIFFIO_T4p (io), B4 IO, DIFFIO_T6p (io), B5 IO, VREFB8N2 (io), B6 IO, DIFFIO_T18p (io), B7 IO, DIFFIO_T19p (io), B8 IO, DIFFIO_T20p (io), B9 IO, DIFFIO_T24p (io), B10 IO, DIFFIO_T25p (io), C3 IO, DIFFIO_T3n (io), C4 IO, DIFFIO_T3p (io), C6 IO, DIFFIO_T7n (io), C7 IO, DIFFIO_T16p (io), C8 IO, DIFFIO_T16n (io), C10 IO, VREFB8N0 (io), D6 IO, VREFB8N3 (io), D7 IO, DIFFIO_T7p (io), D10 IO, DIFFIO_T26n (io), E5 IO, PLL3_CLKOUTp (io), E6 IO, PLL3_CLKOUTn (io), E7 IO (io), E9 IO, VREFB8N1 (io), E10 IO, DIFFIO_T26p (io), F7 IO, DIFFIO_T1n (io), F8 IO, DIFFIO_T5n (io), F9 IO (io), F10 IO, DIFFIO_T8p (io), G7 IO, DIFFIO_T1p (io), G8 IO, DIFFIO_T5p (io), G9 IO (io), G10 IO, DIFFIO_T8n (io), G11 IO, DIFFIO_T22n (io), H10 IO, DIFFIO_T14p (io), H11 IO, DIFFIO_T14n (io)
part I pins: A11 CLK10, DIFFCLK_4n (in), A12 CLK8, DIFFCLK_5n (in), AA11 CLK15, DIFFCLK_6p (in), AA12 CLK13, DIFFCLK_7p (in), AB11 CLK14, DIFFCLK_6n (in), AB12 CLK12, DIFFCLK_7n (in), B11 CLK11, DIFFCLK_4p (in), B12 CLK9, DIFFCLK_5p (in), G1 CLK1, DIFFCLK_0n (in), G21 CLK4, DIFFCLK_2p (in), G22 CLK5, DIFFCLK_2n (in), T1 CLK3, DIFFCLK_1n (in), T2 CLK2, DIFFCLK_1p (in), T21 CLK6, DIFFCLK_3p (in), T22 CLK7, DIFFCLK_3n (in)
part J pins: D1 ASDO (io), E2 nCSO (io), K1 DATA0 (io), K2 DCLK (io), K5 nCONFIG (in), K6 nSTATUS (io), K20 MSEL3 (in), L1 TMS (in), L2 TCK (in), L3 nCE (in), L4 TDO (out), L5 TDI (in), L17 MSEL2 (in), L18 MSEL1 (in), M17 MSEL0 (in), M18 CONF_DONE (io)
part K pins: A2 VCCIO8 (power), A21 VCCIO7 (power), AA6 VCCIO3 (power), AB2 VCCIO3 (power), AB21 VCCIO4 (power), D4 VCCIO1 (power), D5 VCCIO8 (power), D9 VCCIO8 (power), D11 VCCIO8 (power), D12 VCCIO7 (power), D14 VCCIO7 (power), D16 VCCIO7 (power), D18 VCCIO7 (power), E8 VCCIO8 (power), E19 VCCIO6 (power), F4 VCCIO1 (power), G12 VCCINT (power), G19 VCCIO6 (power), H4 VCCIO1 (power), H9 VCCINT (power), J10 VCCINT (power), J11 VCCINT (power), J12 VCCINT (power), J13 VCCINT (power), J14 VCCINT (power), J16 VCCINT (power), J20 VCCIO6 (power), K4 VCCIO1 (power), K9 VCCINT (power), K14 VCCINT (power), K15 VCCINT (power), L9 VCCINT (power), L14 VCCINT (power), L16 VCCINT (power), L19 VCCIO6 (power), M9 VCCINT (power), M14 VCCINT (power), M15 VCCINT (power), N4 VCCIO2 (power), N9 VCCINT (power), N14 VCCINT (power), P9 VCCINT (power), P10 VCCINT (power), P11 VCCINT (power), P12 VCCINT (power), P13 VCCINT (power), P14 VCCINT (power), P18 VCCIO5 (power), R4 VCCIO2 (power), R8 VCCINT (power), R10 VCCINT (power), R12 VCCINT (power), T19 VCCIO5 (power), U4 VCCIO2 (power), V19 VCCIO5 (power), W4 VCCIO2 (power), W5 VCCIO3 (power), W9 VCCIO3 (power), W11 VCCIO3 (power), W12 VCCIO4 (power), W16 VCCIO4 (power), W18 VCCIO4 (power), Y14 VCCIO4 (power), Y19 VCCIO5 (power)
part L pins: A1 GND (power), A22 GND (power), AA2 GND (power), AA22 GND (power), AB1 GND (power), AB6 GND (power), AB22 GND (power), C5 GND (power), C9 GND (power), C11 GND (power), C12 GND (power), C14 GND (power), C16 GND (power), C18 GND (power), D3 GND (power), D8 GND (power), E20 GND (power), F3 GND (power), F12 GND (power), G2 GND (power), G20 GND (power), H3 GND (power), H12 GND (power), H13 GND (power), J9 GND (power), J15 GND (power), J19 GND (power), K3 GND (power), K10 GND (power), K11 GND (power), K12 GND (power), K13 GND (power), K16 GND (power), L10 GND (power), L11 GND (power), L12 GND (power), L13 GND (power), L15 GND (power), L20 GND (power), M10 GND (power), M11 GND (power), M12 GND (power), M13 GND (power), N3 GND (power), N10 GND (power), N11 GND (power), N12 GND (power), N13 GND (power), N15 GND (power), P8 GND (power), P19 GND (power), R3 GND (power), R9 GND (power), R11 GND (power), R13 GND (power), T20 GND (power), U3 GND (power), V20 GND (power), W3 GND (power), Y5 GND (power), Y9 GND (power), Y11 GND (power), Y12 GND (power), Y15 GND (power), Y16 GND (power), Y18 GND (power), Y20 GND (power)
part M pins: E17 VCCD_PLL2 (power), E18 GNDA2 (power), F5 GNDA3 (power), F6 VCCD_PLL3 (power), F18 VCCA2 (power), G6 VCCA3 (power), T6 VCCA1 (power), U5 GNDA1 (power), U6 VCCD_PLL1 (power), U18 VCCA4 (power), V17 VCCD_PLL4 (power), V18 GNDA4 (power)
part A text: BANK1
part B text: BANK2
part C text: BANK3
part D text: BANK4
part E text: BANK5
part F text: BANK6
part G text: BANK7
part H text: BANK8

## ESDA6V1L
designator VD?  PartNumber: ESDA6V1L
Диодная сборка TVS 6.1В 300Вт [SOT-23]; Manufacturer: STMicroelectronics; ValueManufacturerPartNumber: Protection Devices ROHS, *, *, *, *, -40...+85°C, SOT-23-3; HelpURL: https://datasheet.lcsc.com/lcsc/2108131930_TECH-PUBLIC-ESDA6V1L_C587141.pdf; Package: SOT-23-3; ComponentType: Protection Devices ROHS; Temperature: -40...+85°C; VoltageInput: *; MaxDropout: *; CurrentOutput: *; VoltageOutput: *
footprint SOT23
pins: 1 K1, 2 K2, 3 COM A
text: TVS

## FM25V10-GTR
designator DD?  PartNumber: FM25V10-GTR
1Mbit 40MHz SPI SOP-8 FRAM ROHS; Manufacturer: CYPRESS; VoltageInput: 2.0V to 3.6V; HelpURL: https://datasheet.lcsc.com/lcsc/1809191834_Cypress-Semicon-FM25V10-GTR_C44173.pdf; Package: SOP-8; ComponentType: FRAM; ValueManufacturerPartNumber: =ComponentType+', '+VoltageInput+', '+MaxDropout+', '+VoltageOutput+', '+CurrentOutput+', '+Temperature+', '+Package; Temperature: -40...+85°C
footprint IC: SOP-8
pins: 1 ~{CS}, 2 SO, 3 ~{WP}, 4 VSS, 5 SI, 6 SCK, 7 ~{HOLD}, 8 VDD

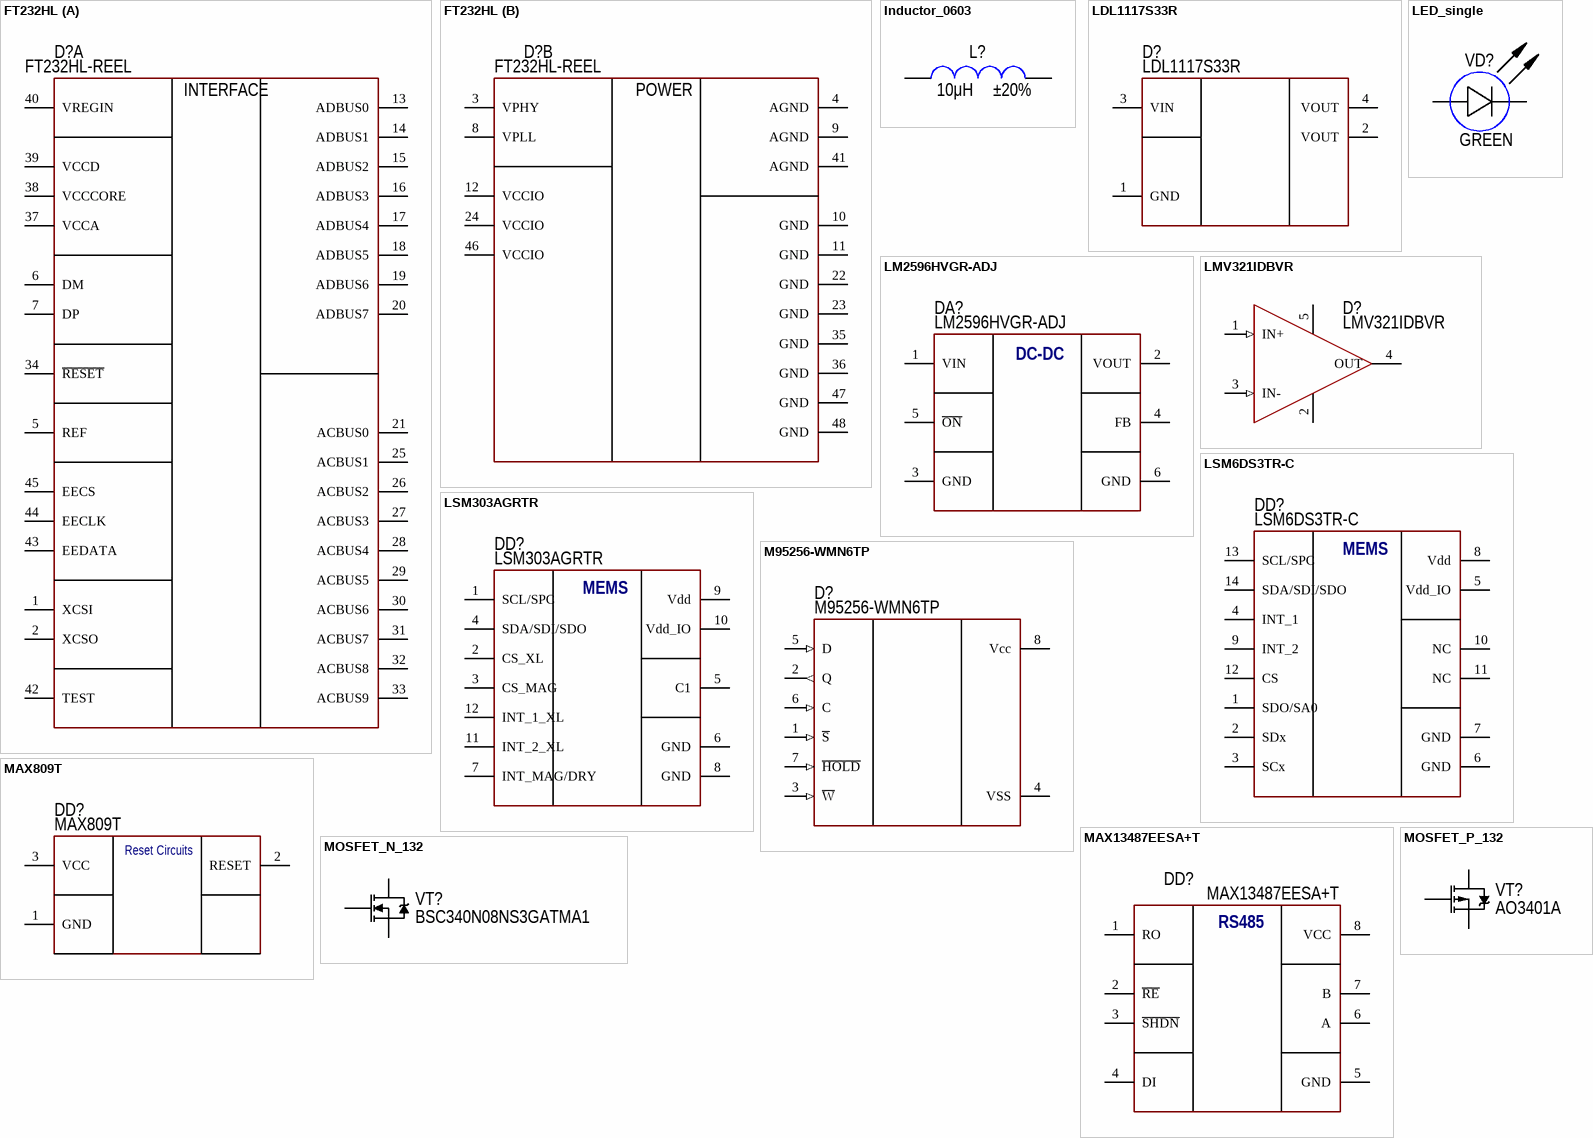
[diagram p5: symbols FT232HL to MOSFET_P_132]

## FT232HL
designator D?  PartNumber: FT232HL-REEL
USB2.0-to-MPSSE; Manufacturer: FTDI; ValueManufacturerPartNumber: , USB 2.0, 3.3V, -40...+85°C, LQFP-48(7x7); Supply: 3.3V; HelpURL: https://www.lcsc.com/product-detail/USB-ICs_FTDI-FT232HL-REEL_C51997.html; Package: LQFP-48(7x7); Temperature: -40...+85°C; Standard: USB 2.0
footprint 48-LQFP (FT232) (QFP, 48-Leads, Body 7x7mm, Pitch 0.5mm, IPC Medium Density)
part A pins: 1 XCSI, 2 XCSO, 5 REF, 6 DM, 7 DP, 13 ADBUS0, 14 ADBUS1, 15 ADBUS2, 16 ADBUS3, 17 ADBUS4, 18 ADBUS5, 19 ADBUS6, 20 ADBUS7, 21 ACBUS0, 25 ACBUS1, 26 ACBUS2, 27 ACBUS3, 28 ACBUS4, 29 ACBUS5, 30 ACBUS6, 31 ACBUS7, 32 ACBUS8, 33 ACBUS9, 34 ~{RESET}, 37 VCCA, 38 VCCCORE, 39 VCCD, 40 VREGIN, 42 TEST, 43 EEDATA, 44 EECLK, 45 EECS
part B pins: 3 VPHY, 4 AGND, 8 VPLL, 9 AGND, 10 GND, 11 GND, 12 VCCIO, 22 GND, 23 GND, 24 VCCIO, 35 GND, 36 GND, 41 AGND, 46 VCCIO, 47 GND, 48 GND
part A text: INTERFACE
part B text: POWER

## Inductor_0603
designator L?  value 10μH  Tolerance: ±20%
Manufacturer: Murata Electronics; PartNumber: LQM18FN100M00D; ValueManufacturerPartNumber: Fixed inductor, 10μH, ±20%, 0603, 50mA, -55...+125°C; TypeInductor: Fixed inductor; MaxCurrent: 50mA; Package: 0603; HelpURL: https://www.digikey.com/product-detail/en/murata-electronics-north-america/LQM18FN100M00D/490-4025-1-ND/1016285; Temperature: -55...+125°C
footprint IND: 0603
pins: 1, 2

## LDL1117S33R
designator D?  PartNumber: LDL1117S33R
Linear voltage regulator; Manufacturer: STMicroelectronics; ValueManufacturerPartNumber: Linear voltage regulator, input 3.9...18V, 0.6V, output 3.3V, 1.2A, -40...+85°C, SOT223; VoltageInput: input 3.9...18V; MaxDropout: 0.6V; CurrentOutput: 1.2A; VoltageOutput: output 3.3V; HelpURL: https://www.digikey.com/product-detail/en/stmicroelectronics/LDL1117S33R/497-17239-1-ND/7102079; Package: SOT223; ComponentType: Linear voltage regulator; Temperature: -40...+85°C
footprint SOT223 (SOT223, 4-Leads, Body 6,50x7,00mm (avg), Pitch 2,30mm, IPC Medium Density)
pins: 1 GND (power), 2 VOUT (power), 3 VIN (power), 4 VOUT (power)

## LED_single
designator VD?  Color: GREEN
ValueManufacturerPartNumber: LED, Green, *, *, *, -55...+150°C; TypeDiode: LED; Manufacturer: *; Package: *; HelpURL: *; Temperature: -55...+150°C; Current: *; VoltageDrop: *; PartNumber: *; ColorParameter: Green
footprint LED: 0402G
pins: 1 A, 2 C

## LM2596HVGR-ADJ
designator DA?  PartNumber: LM2596HVGR-ADJ
LM2596HVGR-ADJ, Понижающий DC-DC преобразователь, Uвх=до 60В, Uвых=1.23…37, 3А, 150кГц [TO-263-5L]; Manufacturer: TAEJIN TECHNOLOGY; ValueManufacturerPartNumber: High-Side Power Switches, 4.5-60В, *, 2.7-6V, 3А, -40...+85°C, TO263-5; VoltageInput: 4.5-60В; VoltageOutput: 2.7-6V; HelpURL: https://static.chipdip.ru/lib/138/DOC004138834.pdf; Package: TO263-5; ComponentType: High-Side Power Switches; Temperature: -40...+85°C; MaxDropout: *; CurrentOutput: 3А
footprint TO263-5
pins: 1 VIN, 2 VOUT, 3 GND, 4 FB, 5 ~{ON}, 6 GND
text: DC-DC

## LMV321IDBVR
designator D?  PartNumber: LMV321IDBVR
OP amplifier; Manufacturer: Texas Instruments; ValueManufacturerPartNumber: IC op amplifier, Rail-to-Rail, 1 MHz, 2.7...5.5V, -40...+125°C, SOT23-5; Supply: 2.7...5.5V; OutputType: Rail-to-Rail; GainBandwidth: 1 MHz; HelpURL: https://www.digikey.com/product-detail/en/texas-instruments/LMV321IDBVR/296-9567-1-ND/379849; Package: SOT23-5; ComponentType: IC op amplifier; Temperature: -40...+125°C
footprint SOT23-5 (pitch 0.95 mm)
pins: 1 IN+ (in), 2 V- (power), 3 IN- (in), 4 OUT (power), 5 V+ (power)

## LSM6DS3TR-C
designator DD?  PartNumber: LSM6DS3TR-C
MEMS Акселерометр и гироскоп; Manufacturer: STMicroelectronics; VoltageInput: 1.71V to 3.6V; HelpURL: https://www.st.com/en/mems-and-sensors/lsm6ds3tr-c.html#tools-software; Package: LGA-14L; ComponentType: MEMS; ValueManufacturerPartNumber: =ComponentType+', '+VoltageInput+', '+MaxDropout+', '+VoltageOutput+', '+CurrentOutput+', '+Temperature+', '+Package; Temperature: -40...+85°C
footprint IC: LGA-14L
pins: 1 SDO/SA0, 2 SDx, 3 SCx, 4 INT_1, 5 Vdd_IO, 6 GND, 7 GND, 8 Vdd, 9 INT_2, 10 NC, 11 NC, 12 CS, 13 SCL/SPC, 14 SDA/SDI/SDO

## LSM303AGRTR
designator DD?  PartNumber: LSM303AGRTR
MEMS Акселерометр и магнитометр; Manufacturer: STMicroelectronics; VoltageInput: 1.71V to 3.6V; HelpURL: https://www.st.com/en/mems-and-sensors/lsm303agr.html#documentation; Package: LGA-12; ComponentType: MEMS; ValueManufacturerPartNumber: =ComponentType+', '+VoltageInput+', '+MaxDropout+', '+VoltageOutput+', '+CurrentOutput+', '+Temperature+', '+Package; Temperature: -40...+85°C
footprint IC: LGA-12 (2x2) (LGA, 12-Leads, Body 2,00x2,00mmx1,00mm, Pitch 0,50mm)
pins: 1 SCL/SPC, 2 CS_XL, 3 CS_MAG, 4 SDA/SDI/SDO, 5 C1, 6 GND, 7 INT_MAG/DRY, 8 GND, 9 Vdd, 10 Vdd_IO, 11 INT_2_XL, 12 INT_1_XL

## M95256-WMN6TP
designator D?  PartNumber: M95256-WMN6TP
EEPROM; Manufacturer: STMicroelectronics; ValueManufacturerPartNumber: IC memory, EEPROM, 256KB (32kx8), 20 MHz, SPI, 1.8...5.5V, -40...+85°C, SOT-23-6; Supply: 1.8...5.5V; Speed: 20 MHz; InterfaceData: SPI; MemorySize: 256KB (32kx8); HelpURL: https://www.st.com/en/memories/m95256-w.html; Package: SOT-23-6; ComponentType: IC memory; Temperature: -40...+85°C; MemoryType: EEPROM
footprint IC: SOIC-8
pins: 1 ~{S} (in), 2 Q (out), 3 ~{W} (in), 4 VSS (power), 5 D (in), 6 C (in), 7 ~{HOLD} (in), 8 Vcc (power)

## MAX809T
designator DD?  PartNumber: MAX809T
Monitors & Reset Circuits ROHS; Manufacturer: UMW; VoltageInput: 1.65V to 5.5V; HelpURL: https://www.lcsc.com/product-detail/Monitors-Reset-Circuits_UMW-Youtai-Semiconductor-Co-Ltd-MAX809T_C347372.html; Package: SOT-23; ComponentType: Voltage-Level Shifter; ValueManufacturerPartNumber: =ComponentType+', '+VoltageInput+', '+MaxDropout+', '+VoltageOutput+', '+CurrentOutput+', '+Temperature+', '+Package; Temperature: -40...+85°C
footprint SOT23
pins: 1 GND, 2 RESET, 3 VCC
text: Reset Circuits

## MAX13487EESA+T
designator DD?  PartNumber: MAX13487EESA+T
transceiver 500Kbps 1/1 SOP-8 RS-485/RS-422 ICs ROHS; Manufacturer: Analog Devices; VoltageInput: 4.5V-5.5V; HelpURL: https://datasheet.lcsc.com/lcsc/1809191814_Analog-Devices-Inc--Maxim-Integrated-MAX13487EESA-T_C18347.pdf; Package: SOP-8; ComponentType: Optocouplers - Logic Output; ValueManufacturerPartNumber: =ComponentType+', '+VoltageInput+', '+MaxDropout+', '+VoltageOutput+', '+CurrentOutput+', '+Temperature+', '+Package; Temperature: -40...+125°C
footprint IC: SOP-8
pins: 1 RO, 2 ~{RE}, 3 ~{SHDN}, 4 DI, 5 GND, 6 A, 7 B, 8 VCC
text: RS485

## MOSFET_N_132
designator VT?  PartNumber: BSC340N08NS3GATMA1
Manufacturer: Infineon Technologies; ValueManufacturerPartNumber: MOSFET N-channel transistor, 80V, 7A, 9.1nC, 2.5W, 34mOhm, 756pF, 8-TDSON, -55...+150°C; TypeTransistor: MOSFET N-channel transistor; VoltageDS: 80V; CurrentDS: 7A; RDS: 34mOhm; GateCharge: 9.1nC; InputCapacitor: 756pF; MaxPower: 2.5W; Package: 8-TDSON; HelpURL: https://www.digikey.com/product-detail/en/infineon-technologies/BSC340N08NS3GATMA1/BSC340N08NS3GATMA1TR-ND/2080655; Temperature: -55...+150°C
footprint SOT23
pins: 1 G, 2 S, 3 D

## MOSFET_P_132
designator VT?  PartNumber: AO3401A
Manufacturer: UMW; ValueManufacturerPartNumber: MOSFET P-channel transistor, -30V, 4.2A, 2nC, 1.4W, 65mOhm, 954pF, SOT-23, -55...+150°C; TypeTransistor: MOSFET P-channel transistor; VoltageDS: -30V; CurrentDS: 4.2A; RDS: 65mOhm; GateCharge: 2nC; InputCapacitor: 954pF; MaxPower: 1.4W; Package: SOT-23; HelpURL: https://www.umw-ic.com/en/product_details/UMW+AO3401A; Temperature: -55...+150°C
footprint SOT23
pins: 1 G, 2 S, 3 D

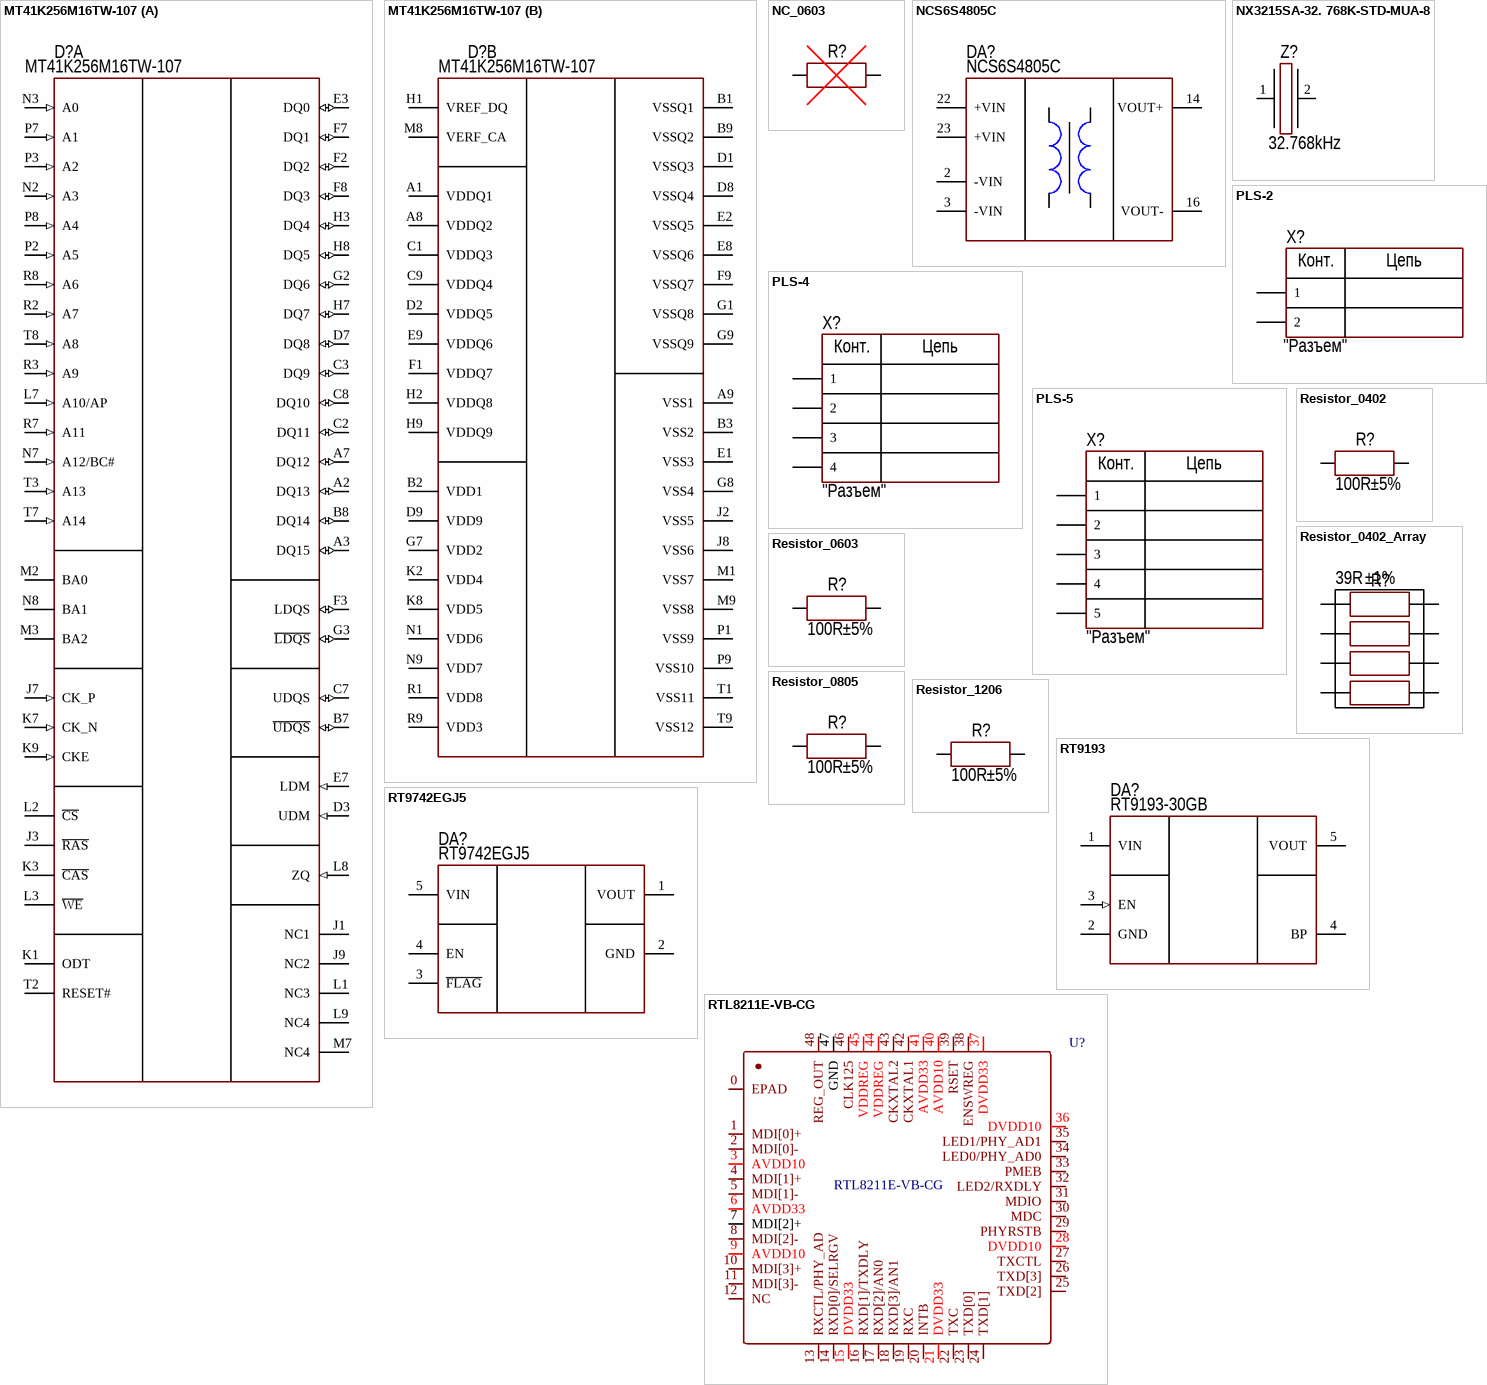
[diagram p6: symbols MT41K256M16TW-107 to RTL8211E-VB-CG]

## MT41K256M16TW-107
designator D?  PartNumber: MT41K256M16TW-107
DDR3L SDRAM; Manufacturer: Micron Tech; ValueManufacturerPartNumber: DDR3L SDRAM, DDR3, 128Mb (8M x 16), 166 MHz, Parallel, 3...3.6V, 0...+70°C, FBGA-96; Supply: 3...3.6V; Speed: 166 MHz; InterfaceData: Parallel; MemorySize: 128Mb (8M x 16); MemoryType: DDR3; HelpURL: https://www.lcsc.com/product-detail/DDR-SDRAM_Micron-Tech-MT41K256M16TW-107-IT-P_C367428.html; Package: FBGA-96; ComponentType: DDR3L SDRAM; Temperature: 0...+70°C
footprint IC: FBGA96
part A pins: A2 DQ13 (io), A3 DQ15 (io), A7 DQ12 (io), B7 ~{UDQS} (io), B8 DQ14 (io), C2 DQ11 (io), C3 DQ9 (io), C7 UDQS (io), C8 DQ10 (io), D3 UDM (in), D7 DQ8 (io), E3 DQ0 (io), E7 LDM (in), F2 DQ2 (io), F3 LDQS (io), F7 DQ1 (io), F8 DQ3 (io), G2 DQ6 (io), G3 ~{LDQS} (io), H3 DQ4 (io), H7 DQ7 (io), H8 DQ5 (io), J1 NC1, J3 ~{RAS}, J7 CK_P (in), J9 NC2, K1 ODT, K3 ~{CAS}, K7 CK_N (in), K9 CKE (in), L1 NC3, L2 ~{CS}, L3 ~{WE}, L7 A10/AP (in), L8 ZQ (in), L9 NC4, M2 BA0, M3 BA2, M7 NC4, N2 A3 (in), N3 A0 (in), N7 A12/BC# (in), N8 BA1, P2 A5 (in), P3 A2 (in), P7 A1 (in), P8 A4 (in), R2 A7 (in), R3 A9 (in), R7 A11 (in), R8 A6 (in), T2 RESET#, T3 A13 (in), T7 A14 (in), T8 A8 (in)
part B pins: A1 VDDQ1, A8 VDDQ2, A9 VSS1, B1 VSSQ1, B2 VDD1, B3 VSS2, B9 VSSQ2, C1 VDDQ3, C9 VDDQ4, D1 VSSQ3, D2 VDDQ5, D8 VSSQ4, D9 VDD9, E1 VSS3, E2 VSSQ5, E8 VSSQ6, E9 VDDQ6, F1 VDDQ7, F9 VSSQ7, G1 VSSQ8, G7 VDD2, G8 VSS4, G9 VSSQ9, H1 VREF_DQ, H2 VDDQ8, H9 VDDQ9, J2 VSS5, J8 VSS6, K2 VDD4, K8 VDD5, M1 VSS7, M8 VERF_CA, M9 VSS8, N1 VDD6, N9 VDD7, P1 VSS9, P9 VSS10, R1 VDD8, R9 VDD3, T1 VSS11, T9 VSS12

## NC_0603
designator R?
PartNumber: NC; ValueManufacturerPartNumber: Resistor film, 0, ±5%, 0603, 0.1W, -55...+125°C; TypeResistor: Resistor film; Power: 0.1W; Value: 0; Tolerance: ±5%; Package: 0603; Temperature: -55...+125°C
footprint RES: 0603
pins: 1, 2

## NCS6S4805C
designator DA?  PartNumber: NCS6S4805C
NCS6S4805C, DC/DC преобразователь, 6 Вт, вход 18-75В, выход 5В/1.2А, DIP; Manufacturer: Murata; ValueManufacturerPartNumber: DC/DC converter, isolator, 5V/1.2A, -40...+105°C, DIP; OutputType: isolator; OutputVoltage: 5V/1.2A; HelpURL: https://static.chipdip.ru/lib/580/DOC000580291.pdf; Package: DIP; ComponentType: DC/DC converter; Temperature: -40...+105°C
footprint DC-DC:NCS6S4805C
pins: 2 -VIN (power), 3 -VIN (power), 14 VOUT+ (power), 16 VOUT- (power), 22 +VIN (power), 23 +VIN (power)

## NX3215SA-32. 768K-STD-MUA-8
designator Z?  Frequency: 32.768kHz
Manufacturer: Nihon Dempa Kogio (NDK); PartNumber: NX3215SA-32. 768K-STD-MUA-8; ValueManufacturerPartNumber: Crystal, 32.768kHz, 12.5pF, ±20ppm, case 3215, -40...+85°C; TypeOscilator: Crystal; LoadCapacitance: 12.5pF; Tolerance: ±20ppm; Package: case 3215; HelpURL: https://static.chipdip.ru/lib/014/DOC004014433.pdf; Temperature: -40...+85°C
footprint OSC: 3215
pins: 1, 2

## PLS-2
designator X?  CommentText: "Разъем"
Manufacturer: Connfly; ValueManufacturerPartNumber: Connector, 2pin, 2.54mm, 500VAC, 3A; PartNumber: PLS-2; TypeConnector: Connector; VoltageMax: 500VAC; Pitch: 2.54mm; CurrentMax: 3A; Multichannel: 2pin; HelpURL: https://www.chipdip.ru/product/pls-2
footprint CON: PLS-2
pins: 1, 2
text: Конт.; Цепь

## PLS-4
designator X?  CommentText: "Разъем"
Manufacturer: Connfly; ValueManufacturerPartNumber: Connector, 4pin, 2.54mm, 500VAC, 3A; PartNumber: PLS-4; TypeConnector: Connector; VoltageMax: 500VAC; Pitch: 2.54mm; CurrentMax: 3A; Multichannel: 4pin; HelpURL: https://www.chipdip.ru/product/pls-4
footprint CON: PLS-4 (PLS-40 4 pin header)
pins: 1, 2, 3 (power), 4 (power)
text: Конт.; Цепь

## PLS-5
designator X?  CommentText: "Разъем"
Manufacturer: Connfly; ValueManufacturerPartNumber: Connector, 5pin, 2.54mm, 500VAC, 3A; PartNumber: PLS-5; TypeConnector: Connector; VoltageMax: 500VAC; Pitch: 2.54mm; CurrentMax: 3A; Multichannel: 5pin; HelpURL: https://www.chipdip.ru/product/pls-5
footprint CON: PLS-5
pins: 1, 2, 3 (power), 4 (power), 5 (power)
text: Конт.; Цепь

## Resistor_0402
designator R?  value 100R  Tolerance: ±5%
Manufacturer: Yageo; PartNumber: RC0402JR-07100RL; ValueManufacturerPartNumber: Resistor film, 100R, ±5%, 0402, 0.063W, -55...+125°C; TypeResistor: Resistor film; Power: 0.063W; Package: 0402; HelpURL: https://www.digikey.com/product-detail/en/yageo/RC0402JR-07100RL/311-100JRCT-ND/729362; Temperature: -55...+125°C
footprint RES: 0402
pins: 1, 2

## Resistor_0402_Array
designator R?  value 39R  Tolerance: ±1%
Manufacturer: Yageo; PartNumber: YC164-FR-0739RL; ValueManufacturerPartNumber: Resistor film, 39R, ±1%, 0402x4, 0.063W, -55...+125°C; TypeResistor: Resistor film; Power: 0.063W; Package: 0402x4; HelpURL: https://www.lcsc.com/product-detail/Resistor-Networks-Arrays_YAGEO-YC164-FR-0739RL_C309682.html; Temperature: -55...+125°C
pins: 1, 2, 3, 4, 5, 6, 7, 8

## Resistor_0603
designator R?  value 100R  Tolerance: ±5%
Manufacturer: Yageo; PartNumber: RC0603JR-07100RL; ValueManufacturerPartNumber: Resistor film, 100R, ±5%, 0603, 0.1W, -55...+125°C; TypeResistor: Resistor film; Power: 0.1W; Package: 0603; HelpURL: https://www.digikey.com/product-detail/en/yageo/RC0603JR-07100RL/311-100GRCT-ND/729644; Temperature: -55...+125°C
footprint RES: 0603
pins: 1, 2

## Resistor_0805
designator R?  value 100R  Tolerance: ±5%
Manufacturer: Yageo; PartNumber: RC0805JR-07100RL; ValueManufacturerPartNumber: Resistor film, 100R, ±5%, 0805, 0.125W, -55...+125°C; TypeResistor: Resistor film; Power: 0.125W; Package: 0805; HelpURL: https://www.digikey.com/product-detail/en/yageo/RC0805JR-07100RL/311-100ARCT-ND/731185; Temperature: -55...+125°C
footprint RES: 0805
pins: 1, 2

## Resistor_1206
designator R?  value 100R  Tolerance: ±5%
Manufacturer: Yageo; PartNumber: RC1206JR-07100RL; ValueManufacturerPartNumber: Resistor film, 100R, ±5%, 1206, 0.25W, -55...+125°C; TypeResistor: Resistor film; Power: 0.25W; Package: 1206; HelpURL: https://www.digikey.com/product-detail/en/yageo/RC1206JR-07100RL/311-100ERCT-ND/732153; Temperature: -55...+125°C
footprint RES: 1206
pins: 1, 2

## RT9193
designator DA?  PartNumber: RT9193-30GB
300mA, Ultra-Low Noise, Ultra-Fast CMOS LDO Regulator; Manufacturer: RICHTECK; ValueManufacturerPartNumber: Linear voltage regulator, 5.5V, 0.5V, output 3.3V, 0.300A, -40...+85°C, SOT-23-5; VoltageInput: 5.5V; MaxDropout: 0.5V; CurrentOutput: 0.300A; VoltageOutput: output 3.3V; HelpURL: https://static.chipdip.ru/lib/728/DOC012728815.pdf; Package: SOT-23-5; ComponentType: Linear voltage regulator; Temperature: -40...+85°C
footprint SOT23-5 (pitch 0.95 mm)
pins: 1 VIN, 2 GND, 3 EN (in), 4 BP, 5 VOUT

## RT9742EGJ5
designator DA?  PartNumber: RT9742EGJ5
Power Distribution Switches 1.5A; Manufacturer: RICHTECK; ValueManufacturerPartNumber: High-Side Power Switches, 2.7-6V, *, 2.7-6V, 1.5A, -40...+85°C, TSOT-23-5; VoltageInput: 2.7-6V; HelpURL: https://static.chipdip.ru/lib/728/DOC012728815.pdf; Package: TSOT-23-5; ComponentType: High-Side Power Switches; Temperature: -40...+85°C; MaxDropout: *; CurrentOutput: 1.5A; VoltageOutput: 2.7-6V
footprint SOT23-5 (pitch 0.95 mm)
pins: 1 VOUT, 2 GND, 3 ~{FLAG}, 4 EN, 5 VIN

## RTL8211E-VB-CG
designator U?
footprint LC-QFN-48_6x6x04P
pins: 0 EPAD, 1 MDI[0]+, 2 MDI[0]-, 3 AVDD10, 4 MDI[1]+, 5 MDI[1]-, 6 AVDD33, 7 MDI[2]+, 8 MDI[2]-, 9 AVDD10, 10 MDI[3]+, 11 MDI[3]-, 12 NC, 13 RXCTL/PHY_AD, 14 RXD[0]/SELRGV, 15 DVDD33, 16 RXD[1]/TXDLY, 17 RXD[2]/AN0, 18 RXD[3]/AN1, 19 RXC, 20 INTB, 21 DVDD33, 22 TXC, 23 TXD[0], 24 TXD[1], 25 TXD[2], 26 TXD[3], 27 TXCTL, 28 DVDD10, 29 PHYRSTB, 30 MDC, 31 MDIO, 32 LED2/RXDLY, 33 PMEB, 34 LED0/PHY_AD0, 35 LED1/PHY_AD1, 36 DVDD10, 37 DVDD33, 38 ENSWREG, 39 RSET, 40 AVDD10, 41 AVDD33, 42 CKXTAL1, 43 CKXTAL2, 44 VDDREG, 45 VDDREG, 46 CLK125, 47 GND, 48 REG_OUT

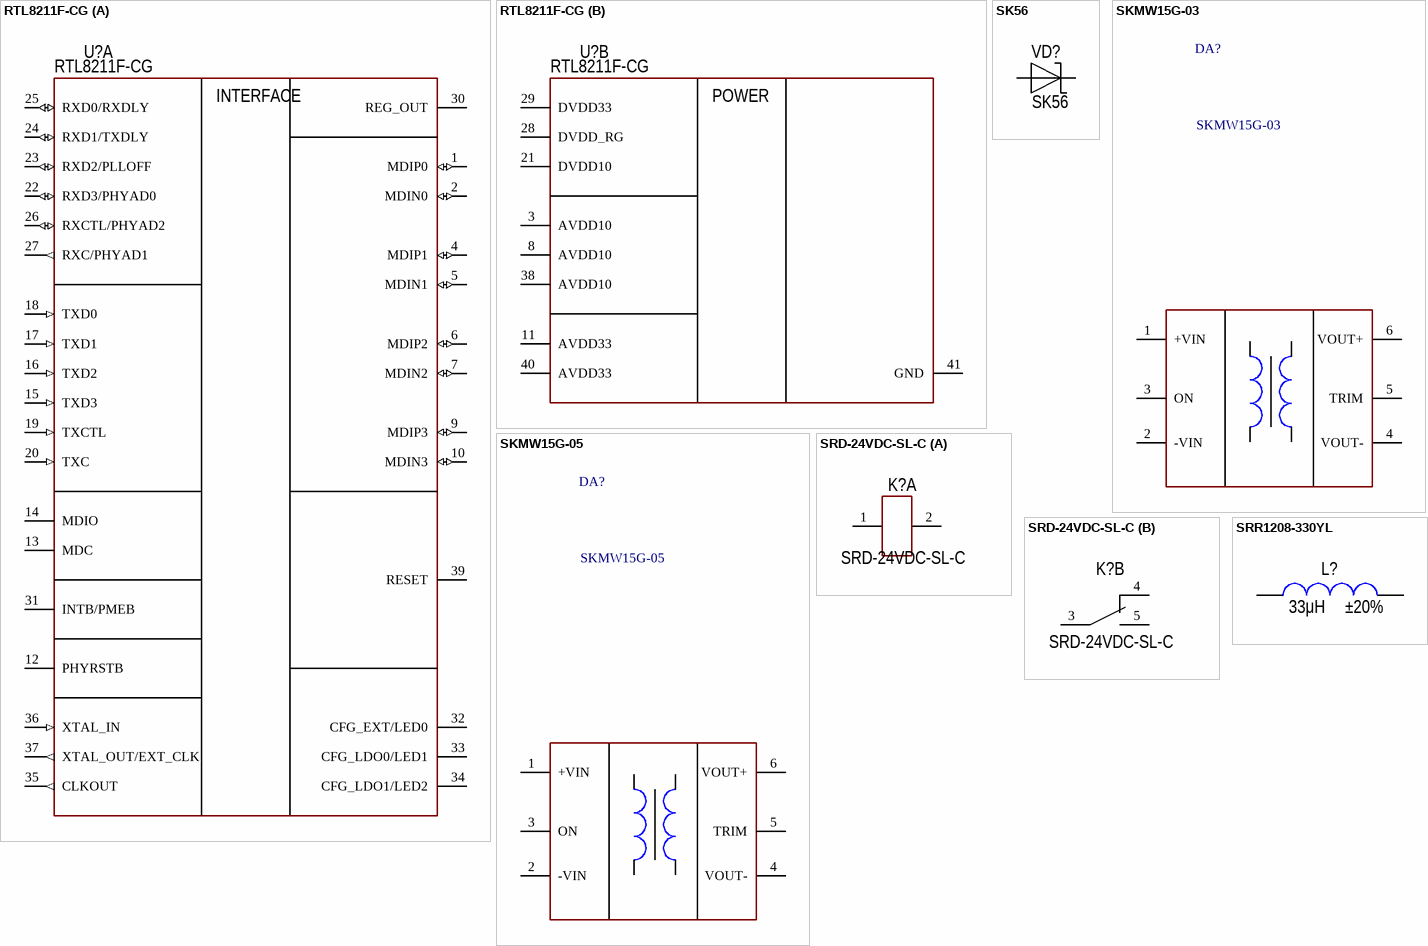
[diagram p7: symbols RTL8211F-CG to SRR1208-330YL]

## RTL8211F-CG
designator U?  PartNumber: RTL8211F-CG
10/100/1000M ETHERNET / PRECISION TRANSCEIVER; Manufacturer: Realtek Semicon; VoltageInput: 1.2V to 2.5V; HelpURL: https://www.lcsc.com/product-detail/Ethernet-ICs_Realtek-Semicon-RTL8211F-CG_C187932.html; Package: WQFN-40-EP(5x5); ComponentType: Ethernet Transceiver; ValueManufacturerPartNumber: =ComponentType+', '+VoltageInput+', '+MaxDropout+', '+VoltageOutput+', '+CurrentOutput+', '+Temperature+', '+Package; Temperature: -40...+105°C
part A pins: 1 MDIP0 (io), 2 MDIN0 (io), 4 MDIP1 (io), 5 MDIN1 (io), 6 MDIP2 (io), 7 MDIN2 (io), 9 MDIP3 (io), 10 MDIN3 (io), 12 PHYRSTB, 13 MDC, 14 MDIO, 15 TXD3 (in), 16 TXD2 (in), 17 TXD1 (in), 18 TXD0 (in), 19 TXCTL (in), 20 TXC (in), 22 RXD3/PHYAD0 (io), 23 RXD2/PLLOFF (io), 24 RXD1/TXDLY (io), 25 RXD0/RXDLY (io), 26 RXCTL/PHYAD2 (io), 27 RXC/PHYAD1 (out), 30 REG_OUT, 31 INTB/PMEB, 32 CFG_EXT/LED0, 33 CFG_LDO0/LED1, 34 CFG_LDO1/LED2, 35 CLKOUT (out), 36 XTAL_IN (in), 37 XTAL_OUT/EXT_CLK (out), 39 RESET
part B pins: 3 AVDD10 (power), 8 AVDD10 (power), 11 AVDD33 (power), 21 DVDD10 (power), 28 DVDD_RG (power), 29 DVDD33 (power), 38 AVDD10 (power), 40 AVDD33 (power), 41 GND (power)
part A text: INTERFACE
part B text: POWER

## SK56
designator VD?  PartNumber: SK56
Диод Шоттки 5А 60В [SMB / DO-214AA]; Manufacturer: Diodes Incorporated; ValueManufacturerPartNumber: Schottky diode, 60V, 5A, 0.75V, 15pF, SMB, -55...+150°C; TypeDiode: Schottky diode; Voltage: 60V; Current: 5A; VoltageDrop: 0.75V; RecoveryTime: 15pF; Package: SMB; HelpURL: https://static.chipdip.ru/lib/115/DOC032115675.pdf; Temperature: -55...+150°C
footprint DIODE: SMB
pins: 1, 2